# Altium integrated library Atmel AT6000.IntLib: 80 symbols (part 5 of 6)
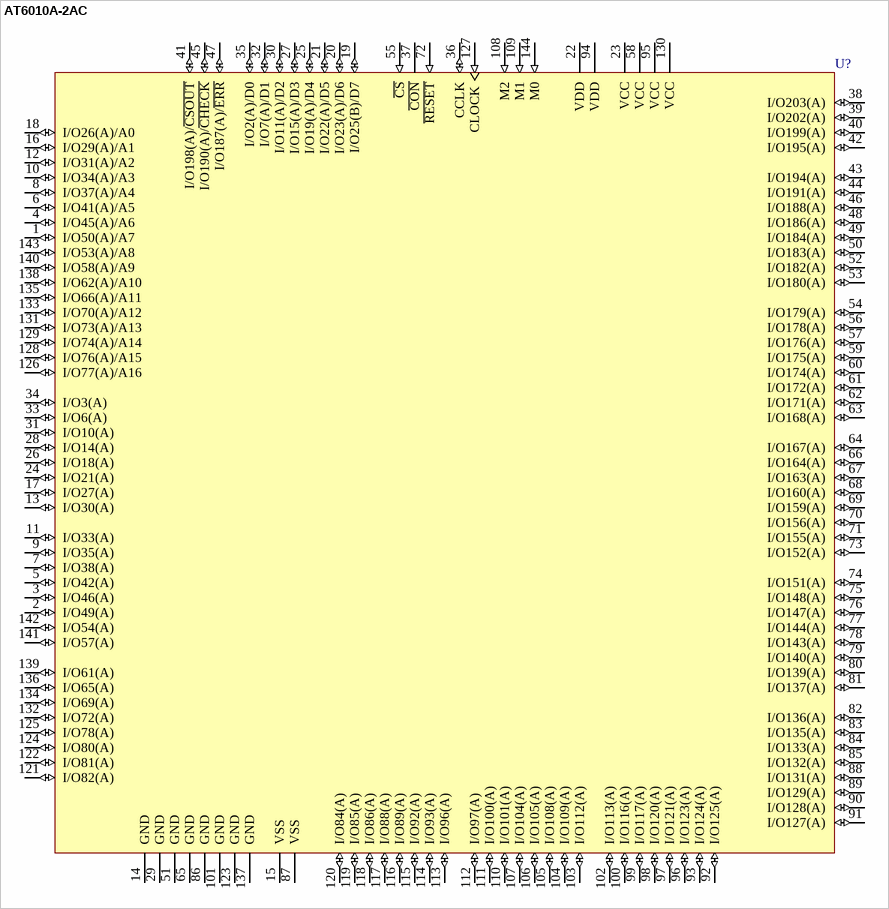
[diagram p54: symbol AT6010A-2AC]

## AT6010A-2AC
designator U?
AT6010 5.0V FPGA, 120 User I/O Pins, 144-Lead TQFP, Speed Grade 2, Commercial Grade; Published: 24-Nov-2000; LatestRevisionDate: 13-Apr-2006; LatestRevisionNote: IPC-7351 Footprint Added.; DatasheetVersion: Rev. 0264F-10/99; PackageVersion: rev.A, Nov-2001; PackageReference: 144L1; Publisher: Altium Limited; PackageDescription: 144-Pin Thin Quad Flat Pack 0.5 mm Pitch; Code_JEDEC: MS-026-BFB; ComponentLink1Description: Manufacturer Link; ComponentLink1URL: http://www.atmel.com/products/FPGA/; ComponentLink2Description: Datasheet; ComponentLink2URL: http://www.atmel.com/dyn/resources/prod_documents/DOC0264.PDF
footprint 144L1_N (Thin QFP, 144-Leads, Body 20x20mm, Pitch 0.5mm, IPC Medium Density)
footprint 144L1_L (Thin QFP, 144-Leads, Body 20x20mm, Pitch 0.5mm, IPC High Density)
footprint 144L1_M (Thin QFP, 144-Leads, Body 20x20mm, Pitch 0.5mm, IPC Low Density)
3D model AT6010A-144L1 (144-Pin Thin Quad Flat Pack 0.5 mm Pitch)
pins: 1 I/O50(A)/A7 (io), 2 I/O49(A) (io), 3 I/O46(A) (io), 4 I/O45(A)/A6 (io), 5 I/O42(A) (io), 6 I/O41(A)/A5 (io), 7 I/O38(A) (io), 8 I/O37(A)/A4 (io), 9 I/O35(A) (io), 10 I/O34(A)/A3 (io), 11 I/O33(A) (io), 12 I/O31(A)/A2 (io), 13 I/O30(A) (io), 14 GND (power), 15 VSS (power) hidden to VSS, 16 I/O29(A)/A1 (io), 17 I/O27(A) (io), 18 I/O26(A)/A0 (io), 19 I/O25(B)/D7 (io), 20 I/O23(A)/D6 (io), 21 I/O22(A)/D5 (io), 22 VDD (power), 23 VCC (power), 24 I/O21(A) (io), 25 I/O19(A)/D4 (io), 26 I/O18(A) (io), 27 I/O15(A)/D3 (io), 28 I/O14(A) (io), 29 GND (power), 30 I/O11(A)/D2 (io), 31 I/O10(A) (io), 32 I/O7(A)/D1 (io), 33 I/O6(A) (io), 34 I/O3(A) (io), 35 I/O2(A)/D0 (io), 36 CCLK (io), 37 ~{CON} (oc), 38 I/O203(A) (io), 39 I/O202(A) (io), 40 I/O199(A) (io), 41 I/O198(A)/~{CSOUT} (io), 42 I/O195(A) (io), 43 I/O194(A) (io), 44 I/O191(A) (io), 45 I/O190(A)/~{CHECK} (io), 46 I/O188(A) (io), 47 I/O187(A)/~{ERR} (io), 48 I/O186(A) (io), 49 I/O184(A) (io), 50 I/O183(A) (io), 51 GND (power), 52 I/O182(A) (io), 53 I/O180(A) (io), 54 I/O179(A) (io), 55 ~{CS} (in), 56 I/O178(A) (io), 57 I/O176(A) (io), 58 VCC (power), 59 I/O175(A) (io), 60 I/O174(A) (io), 61 I/O172(A) (io), 62 I/O171(A) (io), 63 I/O168(A) (io), 64 I/O167(A) (io), 65 GND (power), 66 I/O164(A) (io), 67 I/O163(A) (io), 68 I/O160(A) (io), 69 I/O159(A) (io), 70 I/O156(A) (io), 71 I/O155(A) (io), 72 ~{RESET} (in), 73 I/O152(A) (io), 74 I/O151(A) (io), 75 I/O148(A) (io), 76 I/O147(A) (io), 77 I/O144(A) (io), 78 I/O143(A) (io), 79 I/O140(A) (io), 80 I/O139(A) (io), 81 I/O137(A) (io), 82 I/O136(A) (io), 83 I/O135(A) (io), 84 I/O133(A) (io), 85 I/O132(A) (io), 86 GND (power), 87 VSS (power) hidden to VSS, 88 I/O131(A) (io), 89 I/O129(A) (io), 90 I/O128(A) (io), 91 I/O127(A) (io), 92 I/O125(A) (io), 93 I/O124(A) (io), 94 VDD (power), 95 VCC (power), 96 I/O123(A) (io), 97 I/O121(A) (io), 98 I/O120(A) (io), 99 I/O117(A) (io), 100 I/O116(A) (io), 101 GND (power), 102 I/O113(A) (io), 103 I/O112(A) (io), 104 I/O109(A) (io), 105 I/O108(A) (io), 106 I/O105(A) (io), 107 I/O104(A) (io), 108 M2 (in), 109 M1 (in), 110 I/O101(A) (io), 111 I/O100(A) (io), 112 I/O97(A) (io), 113 I/O96(A) (io), 114 I/O93(A) (io), 115 I/O92(A) (io), 116 I/O89(A) (io), 117 I/O88(A) (io), 118 I/O86(A) (io), 119 I/O85(A) (io), 120 I/O84(A) (io), 121 I/O82(A) (io), 122 I/O81(A) (io), 123 GND (power), 124 I/O80(A) (io), 125 I/O78(A) (io), 126 I/O77(A)/A16 (io), 127 CLOCK (in), 128 I/O76(A)/A15 (io), 129 I/O74(A)/A14 (io), 130 VCC (power), 131 I/O73(A)/A13 (io), 132 I/O72(A) (io), 133 I/O70(A)/A12 (io), 134 I/O69(A) (io), 135 I/O66(A)/A11 (io), 136 I/O65(A) (io), 137 GND (power), 138 I/O62(A)/A10 (io), 139 I/O61(A) (io), 140 I/O58(A)/A9 (io), 141 I/O57(A) (io), 142 I/O54(A) (io), 143 I/O53(A)/A8 (io), 144 M0 (in)

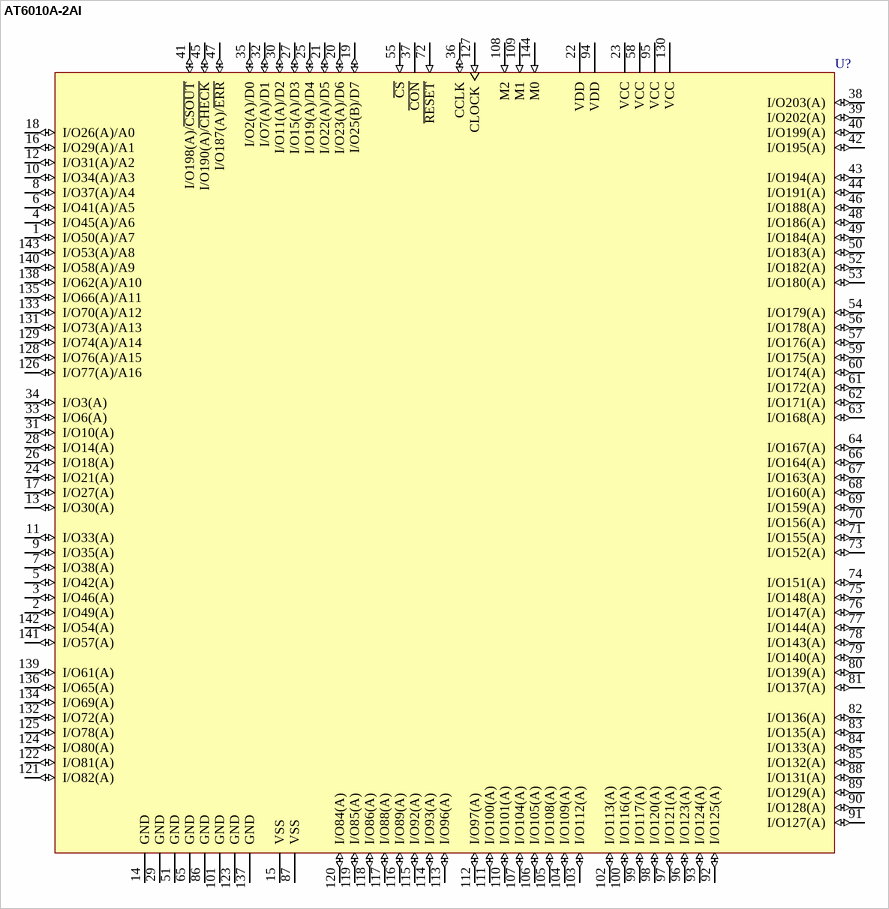
[diagram p36: symbol AT6010A-2AI]

## AT6010A-2AI
designator U?
AT6010 5.0V FPGA, 120 User I/O Pins, 144-Lead TQFP, Speed Grade 2, Industrial Grade; Published: 17-Dec-2003; LatestRevisionDate: 13-Apr-2006; LatestRevisionNote: IPC-7351 Footprint Added.; DatasheetVersion: Rev. 0264F-10/99; PackageVersion: rev.A, Nov-2001; PackageReference: 144L1; Publisher: Altium Limited; PackageDescription: 144-Pin Thin Quad Flat Pack 0.5 mm Pitch; Code_JEDEC: MS-026-BFB; ComponentLink1Description: Manufacturer Link; ComponentLink1URL: http://www.atmel.com/products/FPGA/; ComponentLink2Description: Datasheet; ComponentLink2URL: http://www.atmel.com/dyn/resources/prod_documents/DOC0264.PDF
footprint 144L1_N (Thin QFP, 144-Leads, Body 20x20mm, Pitch 0.5mm, IPC Medium Density)
footprint 144L1_L (Thin QFP, 144-Leads, Body 20x20mm, Pitch 0.5mm, IPC High Density)
footprint 144L1_M (Thin QFP, 144-Leads, Body 20x20mm, Pitch 0.5mm, IPC Low Density)
3D model AT6010A-144L1 (144-Pin Thin Quad Flat Pack 0.5 mm Pitch)
pins: 1 I/O50(A)/A7 (io), 2 I/O49(A) (io), 3 I/O46(A) (io), 4 I/O45(A)/A6 (io), 5 I/O42(A) (io), 6 I/O41(A)/A5 (io), 7 I/O38(A) (io), 8 I/O37(A)/A4 (io), 9 I/O35(A) (io), 10 I/O34(A)/A3 (io), 11 I/O33(A) (io), 12 I/O31(A)/A2 (io), 13 I/O30(A) (io), 14 GND (power), 15 VSS (power) hidden to VSS, 16 I/O29(A)/A1 (io), 17 I/O27(A) (io), 18 I/O26(A)/A0 (io), 19 I/O25(B)/D7 (io), 20 I/O23(A)/D6 (io), 21 I/O22(A)/D5 (io), 22 VDD (power), 23 VCC (power), 24 I/O21(A) (io), 25 I/O19(A)/D4 (io), 26 I/O18(A) (io), 27 I/O15(A)/D3 (io), 28 I/O14(A) (io), 29 GND (power), 30 I/O11(A)/D2 (io), 31 I/O10(A) (io), 32 I/O7(A)/D1 (io), 33 I/O6(A) (io), 34 I/O3(A) (io), 35 I/O2(A)/D0 (io), 36 CCLK (io), 37 ~{CON} (oc), 38 I/O203(A) (io), 39 I/O202(A) (io), 40 I/O199(A) (io), 41 I/O198(A)/~{CSOUT} (io), 42 I/O195(A) (io), 43 I/O194(A) (io), 44 I/O191(A) (io), 45 I/O190(A)/~{CHECK} (io), 46 I/O188(A) (io), 47 I/O187(A)/~{ERR} (io), 48 I/O186(A) (io), 49 I/O184(A) (io), 50 I/O183(A) (io), 51 GND (power), 52 I/O182(A) (io), 53 I/O180(A) (io), 54 I/O179(A) (io), 55 ~{CS} (in), 56 I/O178(A) (io), 57 I/O176(A) (io), 58 VCC (power), 59 I/O175(A) (io), 60 I/O174(A) (io), 61 I/O172(A) (io), 62 I/O171(A) (io), 63 I/O168(A) (io), 64 I/O167(A) (io), 65 GND (power), 66 I/O164(A) (io), 67 I/O163(A) (io), 68 I/O160(A) (io), 69 I/O159(A) (io), 70 I/O156(A) (io), 71 I/O155(A) (io), 72 ~{RESET} (in), 73 I/O152(A) (io), 74 I/O151(A) (io), 75 I/O148(A) (io), 76 I/O147(A) (io), 77 I/O144(A) (io), 78 I/O143(A) (io), 79 I/O140(A) (io), 80 I/O139(A) (io), 81 I/O137(A) (io), 82 I/O136(A) (io), 83 I/O135(A) (io), 84 I/O133(A) (io), 85 I/O132(A) (io), 86 GND (power), 87 VSS (power) hidden to VSS, 88 I/O131(A) (io), 89 I/O129(A) (io), 90 I/O128(A) (io), 91 I/O127(A) (io), 92 I/O125(A) (io), 93 I/O124(A) (io), 94 VDD (power), 95 VCC (power), 96 I/O123(A) (io), 97 I/O121(A) (io), 98 I/O120(A) (io), 99 I/O117(A) (io), 100 I/O116(A) (io), 101 GND (power), 102 I/O113(A) (io), 103 I/O112(A) (io), 104 I/O109(A) (io), 105 I/O108(A) (io), 106 I/O105(A) (io), 107 I/O104(A) (io), 108 M2 (in), 109 M1 (in), 110 I/O101(A) (io), 111 I/O100(A) (io), 112 I/O97(A) (io), 113 I/O96(A) (io), 114 I/O93(A) (io), 115 I/O92(A) (io), 116 I/O89(A) (io), 117 I/O88(A) (io), 118 I/O86(A) (io), 119 I/O85(A) (io), 120 I/O84(A) (io), 121 I/O82(A) (io), 122 I/O81(A) (io), 123 GND (power), 124 I/O80(A) (io), 125 I/O78(A) (io), 126 I/O77(A)/A16 (io), 127 CLOCK (in), 128 I/O76(A)/A15 (io), 129 I/O74(A)/A14 (io), 130 VCC (power), 131 I/O73(A)/A13 (io), 132 I/O72(A) (io), 133 I/O70(A)/A12 (io), 134 I/O69(A) (io), 135 I/O66(A)/A11 (io), 136 I/O65(A) (io), 137 GND (power), 138 I/O62(A)/A10 (io), 139 I/O61(A) (io), 140 I/O58(A)/A9 (io), 141 I/O57(A) (io), 142 I/O54(A) (io), 143 I/O53(A)/A8 (io), 144 M0 (in)

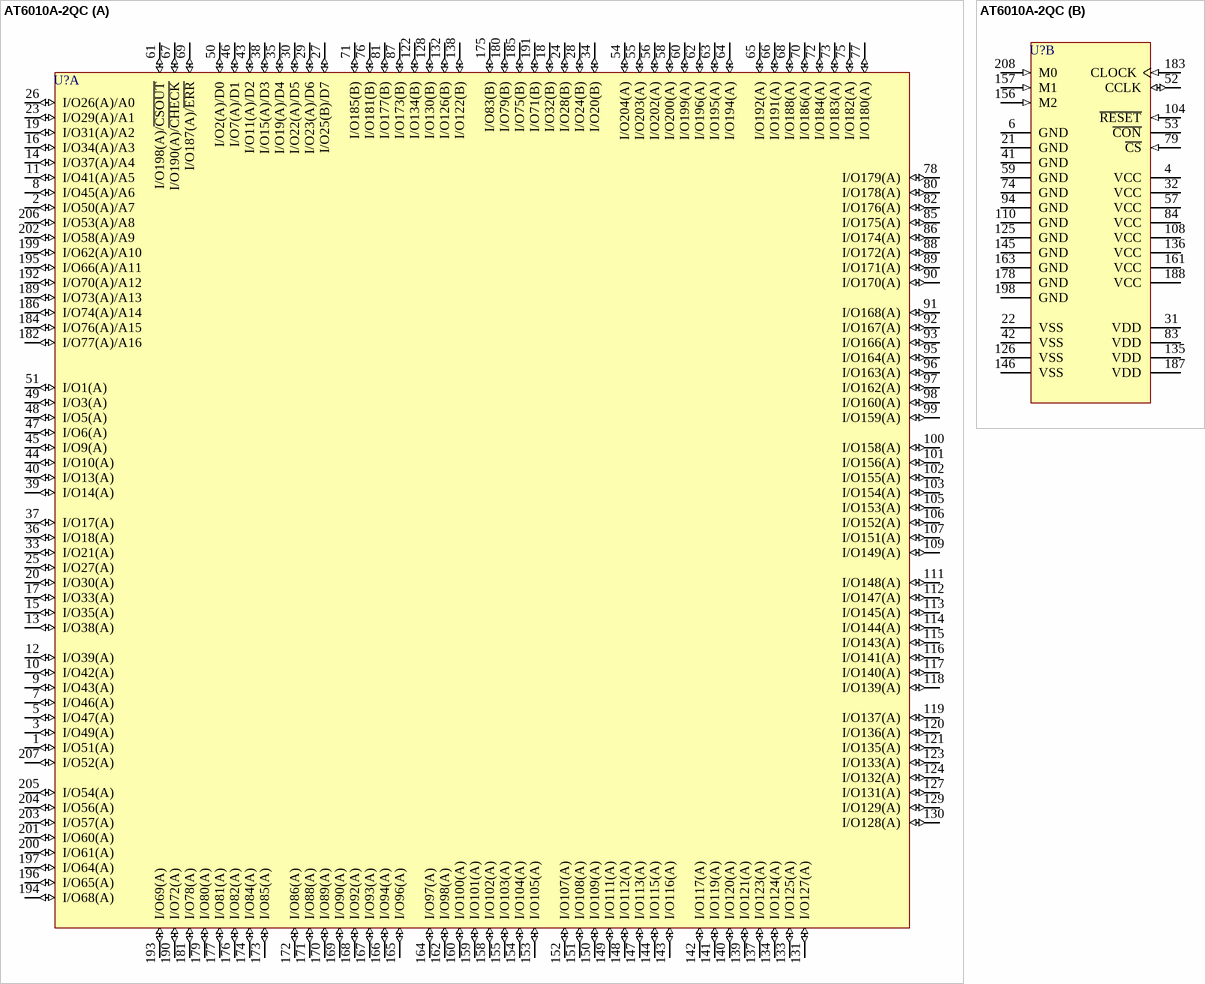
[diagram p37: symbol AT6010A-2QC]

## AT6010A-2QC
designator U?
AT6010 5.0V FPGA, 172 User I/O Pins, 208-Lead PQFP, Speed Grade 2, Commercial Grade; Published: 17-Dec-2003; LatestRevisionDate: 13-Apr-2006; LatestRevisionNote: IPC-7351 Footprint Added.; DatasheetVersion: Rev. 0264F-10/99; PackageVersion: rev.A, Nov-2001; PackageReference: 208Q1; Publisher: Altium Limited; PackageDescription: 208-Pin Shrink Quad Flat Pack 0.5 mm Pitch; ComponentLink1Description: Manufacturer Link; ComponentLink1URL: http://www.atmel.com/products/FPGA/; ComponentLink2Description: Datasheet; ComponentLink2URL: http://www.atmel.com/dyn/resources/prod_documents/DOC0264.PDF
footprint 208Q1_N (Shrink QFP, 208-Leads, Body 28x28mm, Pitch 0.5mm, IPC Medium Density)
footprint 208Q1_L (Shrink QFP, 208-Leads, Body 28x28mm, Pitch 0.5mm, IPC High Density)
footprint 208Q1_M (Shrink QFP, 208-Leads, Body 28x28mm, Pitch 0.5mm, IPC Low Density)
3D model AT6010A-208Q1 (208-Pin Shrink Quad Flat Pack 0.5 mm Pitch)
part A pins: 1 I/O51(A) (io), 2 I/O50(A)/A7 (io), 3 I/O49(A) (io), 5 I/O47(A) (io), 7 I/O46(A) (io), 8 I/O45(A)/A6 (io), 9 I/O43(A) (io), 10 I/O42(A) (io), 11 I/O41(A)/A5 (io), 12 I/O39(A) (io), 13 I/O38(A) (io), 14 I/O37(A)/A4 (io), 15 I/O35(A) (io), 16 I/O34(A)/A3 (io), 17 I/O33(A) (io), 18 I/O32(B) (io), 19 I/O31(A)/A2 (io), 20 I/O30(A) (io), 23 I/O29(A)/A1 (io), 24 I/O28(B) (io), 25 I/O27(A) (io), 26 I/O26(A)/A0 (io), 27 I/O25(B)/D7 (io), 28 I/O24(B) (io), 29 I/O23(A)/D6 (io), 30 I/O22(A)/D5 (io), 33 I/O21(A) (io), 34 I/O20(B) (io), 35 I/O19(A)/D4 (io), 36 I/O18(A) (io), 37 I/O17(A) (io), 38 I/O15(A)/D3 (io), 39 I/O14(A) (io), 40 I/O13(A) (io), 43 I/O11(A)/D2 (io), 44 I/O10(A) (io), 45 I/O9(A) (io), 46 I/O7(A)/D1 (io), 47 I/O6(A) (io), 48 I/O5(A) (io), 49 I/O3(A) (io), 50 I/O2(A)/D0 (io), 51 I/O1(A) (io), 54 I/O204(A) (io), 55 I/O203(A) (io), 56 I/O202(A) (io), 58 I/O200(A) (io), 60 I/O199(A) (io), 61 I/O198(A)/~{CSOUT} (io), 62 I/O196(A) (io), 63 I/O195(A) (io), 64 I/O194(A) (io), 65 I/O192(A) (io), 66 I/O191(A) (io), 67 I/O190(A)/~{CHECK} (io), 68 I/O188(A) (io), 69 I/O187(A)/~{ERR} (io), 70 I/O186(A) (io), 71 I/O185(B) (io), 72 I/O184(A) (io), 73 I/O183(A) (io), 75 I/O182(A) (io), 76 I/O181(B) (io), 77 I/O180(A) (io), 78 I/O179(A) (io), 80 I/O178(A) (io), 81 I/O177(B) (io), 82 I/O176(A) (io), 85 I/O175(A) (io), 86 I/O174(A) (io), 87 I/O173(B) (io), 88 I/O172(A) (io), 89 I/O171(A) (io), 90 I/O170(A) (io), 91 I/O168(A) (io), 92 I/O167(A) (io), 93 I/O166(A) (io), 95 I/O164(A) (io), 96 I/O163(A) (io), 97 I/O162(A) (io), 98 I/O160(A) (io), 99 I/O159(A) (io), 100 I/O158(A) (io), 101 I/O156(A) (io), 102 I/O155(A) (io), 103 I/O154(A) (io), 105 I/O153(A) (io), 106 I/O152(A) (io), 107 I/O151(A) (io), 109 I/O149(A) (io), 111 I/O148(A) (io), 112 I/O147(A) (io), 113 I/O145(A) (io), 114 I/O144(A) (io), 115 I/O143(A) (io), 116 I/O141(A) (io), 117 I/O140(A) (io), 118 I/O139(A) (io), 119 I/O137(A) (io), 120 I/O136(A) (io), 121 I/O135(A) (io), 122 I/O134(B) (io), 123 I/O133(A) (io), 124 I/O132(A) (io), 127 I/O131(A) (io), 128 I/O130(B) (io), 129 I/O129(A) (io), 130 I/O128(A) (io), 131 I/O127(A) (io), 132 I/O126(B) (io), 133 I/O125(A) (io), 134 I/O124(A) (io), 137 I/O123(A) (io), 138 I/O122(B) (io), 139 I/O121(A) (io), 140 I/O120(A) (io), 141 I/O119(A) (io), 142 I/O117(A) (io), 143 I/O116(A) (io), 144 I/O115(A) (io), 147 I/O113(A) (io), 148 I/O112(A) (io), 149 I/O111(A) (io), 150 I/O109(A) (io), 151 I/O108(A) (io), 152 I/O107(A) (io), 153 I/O105(A) (io), 154 I/O104(A) (io), 155 I/O103(A) (io), 158 I/O102(A) (io), 159 I/O101(A) (io), 160 I/O100(A) (io), 162 I/O98(A) (io), 164 I/O97(A) (io), 165 I/O96(A) (io), 166 I/O94(A) (io), 167 I/O93(A) (io), 168 I/O92(A) (io), 169 I/O90(A) (io), 170 I/O89(A) (io), 171 I/O88(A) (io), 172 I/O86(A) (io), 173 I/O85(A) (io), 174 I/O84(A) (io), 175 I/O83(B) (io), 176 I/O82(A) (io), 177 I/O81(A) (io), 179 I/O80(A) (io), 180 I/O79(B) (io), 181 I/O78(A) (io), 182 I/O77(A)/A16 (io), 184 I/O76(A)/A15 (io), 185 I/O75(B) (io), 186 I/O74(A)/A14 (io), 189 I/O73(A)/A13 (io), 190 I/O72(A) (io), 191 I/O71(B) (io), 192 I/O70(A)/A12 (io), 193 I/O69(A) (io), 194 I/O68(A) (io), 195 I/O66(A)/A11 (io), 196 I/O65(A) (io), 197 I/O64(A) (io), 199 I/O62(A)/A10 (io), 200 I/O61(A) (io), 201 I/O60(A) (io), 202 I/O58(A)/A9 (io), 203 I/O57(A) (io), 204 I/O56(A) (io), 205 I/O54(A) (io), 206 I/O53(A)/A8 (io), 207 I/O52(A) (io)
part B pins: 4 VCC (power), 6 GND (power), 21 GND (power), 22 VSS (power), 31 VDD (power), 32 VCC (power), 41 GND (power), 42 VSS (power), 52 CCLK (io), 53 ~{CON} (oc), 57 VCC (power), 59 GND (power), 74 GND (power), 79 ~{CS} (in), 83 VDD (power), 84 VCC (power), 94 GND (power), 104 ~{RESET} (in), 108 VCC (power), 110 GND (power), 125 GND (power), 126 VSS (power), 135 VDD (power), 136 VCC (power), 145 GND (power), 146 VSS (power), 156 M2 (in), 157 M1 (in), 161 VCC (power), 163 GND (power), 178 GND (power), 183 CLOCK (in), 187 VDD (power), 188 VCC (power), 198 GND (power), 208 M0 (in)

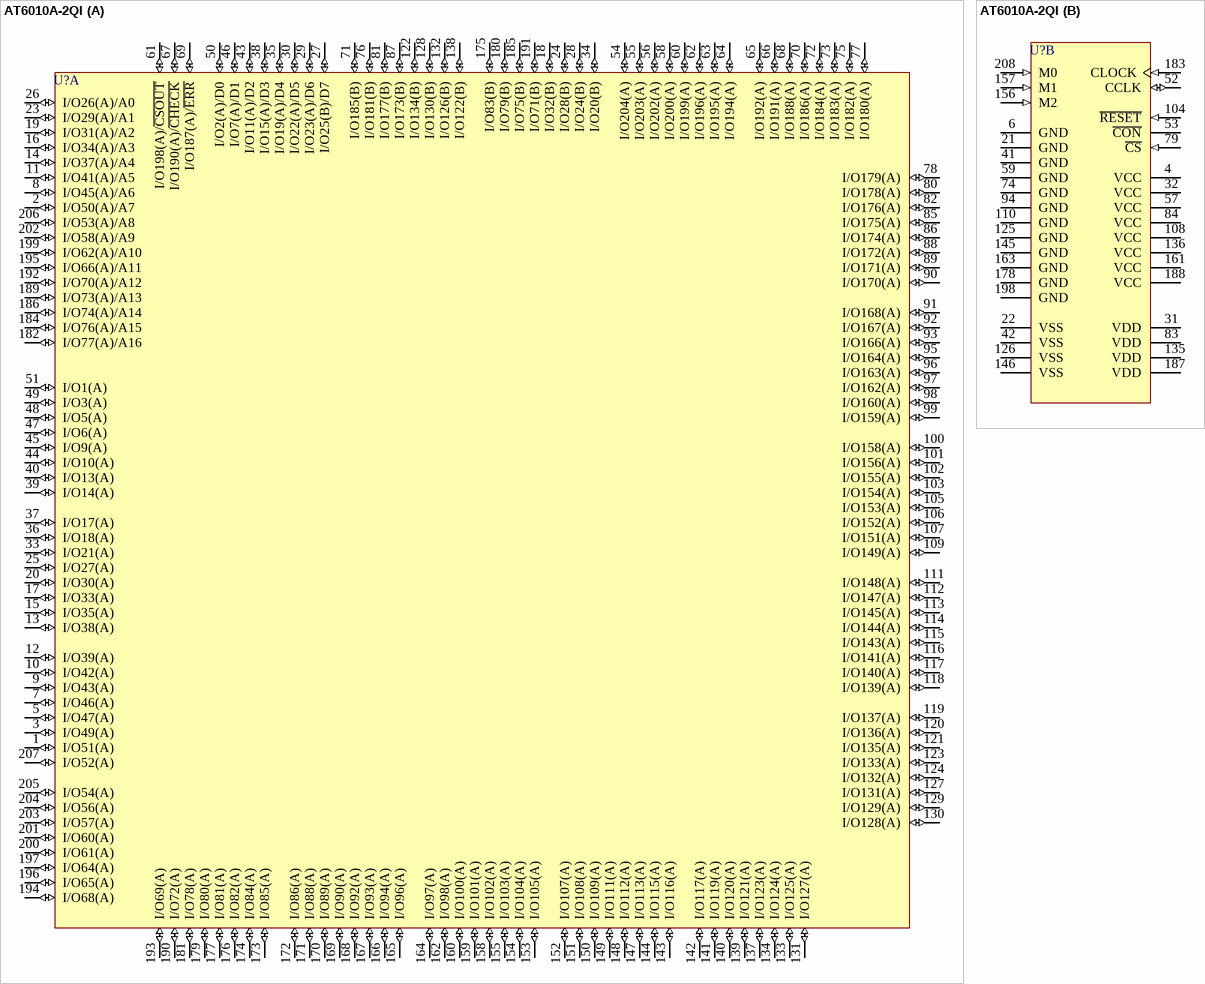
[diagram p38: symbol AT6010A-2QI]

## AT6010A-2QI
designator U?
AT6010 5.0V FPGA, 172 User I/O Pins, 208-Lead PQFP, Speed Grade 2, Industrial Grade; Published: 17-Dec-2003; LatestRevisionDate: 13-Apr-2006; LatestRevisionNote: IPC-7351 Footprint Added.; DatasheetVersion: Rev. 0264F-10/99; PackageVersion: rev.A, Nov-2001; PackageReference: 208Q1; Publisher: Altium Limited; PackageDescription: 208-Pin Shrink Quad Flat Pack 0.5 mm Pitch; ComponentLink1Description: Manufacturer Link; ComponentLink1URL: http://www.atmel.com/products/FPGA/; ComponentLink2Description: Datasheet; ComponentLink2URL: http://www.atmel.com/dyn/resources/prod_documents/DOC0264.PDF
footprint 208Q1_N (Shrink QFP, 208-Leads, Body 28x28mm, Pitch 0.5mm, IPC Medium Density)
footprint 208Q1_L (Shrink QFP, 208-Leads, Body 28x28mm, Pitch 0.5mm, IPC High Density)
footprint 208Q1_M (Shrink QFP, 208-Leads, Body 28x28mm, Pitch 0.5mm, IPC Low Density)
3D model AT6010A-208Q1 (208-Pin Shrink Quad Flat Pack 0.5 mm Pitch)
part A pins: 1 I/O51(A) (io), 2 I/O50(A)/A7 (io), 3 I/O49(A) (io), 5 I/O47(A) (io), 7 I/O46(A) (io), 8 I/O45(A)/A6 (io), 9 I/O43(A) (io), 10 I/O42(A) (io), 11 I/O41(A)/A5 (io), 12 I/O39(A) (io), 13 I/O38(A) (io), 14 I/O37(A)/A4 (io), 15 I/O35(A) (io), 16 I/O34(A)/A3 (io), 17 I/O33(A) (io), 18 I/O32(B) (io), 19 I/O31(A)/A2 (io), 20 I/O30(A) (io), 23 I/O29(A)/A1 (io), 24 I/O28(B) (io), 25 I/O27(A) (io), 26 I/O26(A)/A0 (io), 27 I/O25(B)/D7 (io), 28 I/O24(B) (io), 29 I/O23(A)/D6 (io), 30 I/O22(A)/D5 (io), 33 I/O21(A) (io), 34 I/O20(B) (io), 35 I/O19(A)/D4 (io), 36 I/O18(A) (io), 37 I/O17(A) (io), 38 I/O15(A)/D3 (io), 39 I/O14(A) (io), 40 I/O13(A) (io), 43 I/O11(A)/D2 (io), 44 I/O10(A) (io), 45 I/O9(A) (io), 46 I/O7(A)/D1 (io), 47 I/O6(A) (io), 48 I/O5(A) (io), 49 I/O3(A) (io), 50 I/O2(A)/D0 (io), 51 I/O1(A) (io), 54 I/O204(A) (io), 55 I/O203(A) (io), 56 I/O202(A) (io), 58 I/O200(A) (io), 60 I/O199(A) (io), 61 I/O198(A)/~{CSOUT} (io), 62 I/O196(A) (io), 63 I/O195(A) (io), 64 I/O194(A) (io), 65 I/O192(A) (io), 66 I/O191(A) (io), 67 I/O190(A)/~{CHECK} (io), 68 I/O188(A) (io), 69 I/O187(A)/~{ERR} (io), 70 I/O186(A) (io), 71 I/O185(B) (io), 72 I/O184(A) (io), 73 I/O183(A) (io), 75 I/O182(A) (io), 76 I/O181(B) (io), 77 I/O180(A) (io), 78 I/O179(A) (io), 80 I/O178(A) (io), 81 I/O177(B) (io), 82 I/O176(A) (io), 85 I/O175(A) (io), 86 I/O174(A) (io), 87 I/O173(B) (io), 88 I/O172(A) (io), 89 I/O171(A) (io), 90 I/O170(A) (io), 91 I/O168(A) (io), 92 I/O167(A) (io), 93 I/O166(A) (io), 95 I/O164(A) (io), 96 I/O163(A) (io), 97 I/O162(A) (io), 98 I/O160(A) (io), 99 I/O159(A) (io), 100 I/O158(A) (io), 101 I/O156(A) (io), 102 I/O155(A) (io), 103 I/O154(A) (io), 105 I/O153(A) (io), 106 I/O152(A) (io), 107 I/O151(A) (io), 109 I/O149(A) (io), 111 I/O148(A) (io), 112 I/O147(A) (io), 113 I/O145(A) (io), 114 I/O144(A) (io), 115 I/O143(A) (io), 116 I/O141(A) (io), 117 I/O140(A) (io), 118 I/O139(A) (io), 119 I/O137(A) (io), 120 I/O136(A) (io), 121 I/O135(A) (io), 122 I/O134(B) (io), 123 I/O133(A) (io), 124 I/O132(A) (io), 127 I/O131(A) (io), 128 I/O130(B) (io), 129 I/O129(A) (io), 130 I/O128(A) (io), 131 I/O127(A) (io), 132 I/O126(B) (io), 133 I/O125(A) (io), 134 I/O124(A) (io), 137 I/O123(A) (io), 138 I/O122(B) (io), 139 I/O121(A) (io), 140 I/O120(A) (io), 141 I/O119(A) (io), 142 I/O117(A) (io), 143 I/O116(A) (io), 144 I/O115(A) (io), 147 I/O113(A) (io), 148 I/O112(A) (io), 149 I/O111(A) (io), 150 I/O109(A) (io), 151 I/O108(A) (io), 152 I/O107(A) (io), 153 I/O105(A) (io), 154 I/O104(A) (io), 155 I/O103(A) (io), 158 I/O102(A) (io), 159 I/O101(A) (io), 160 I/O100(A) (io), 162 I/O98(A) (io), 164 I/O97(A) (io), 165 I/O96(A) (io), 166 I/O94(A) (io), 167 I/O93(A) (io), 168 I/O92(A) (io), 169 I/O90(A) (io), 170 I/O89(A) (io), 171 I/O88(A) (io), 172 I/O86(A) (io), 173 I/O85(A) (io), 174 I/O84(A) (io), 175 I/O83(B) (io), 176 I/O82(A) (io), 177 I/O81(A) (io), 179 I/O80(A) (io), 180 I/O79(B) (io), 181 I/O78(A) (io), 182 I/O77(A)/A16 (io), 184 I/O76(A)/A15 (io), 185 I/O75(B) (io), 186 I/O74(A)/A14 (io), 189 I/O73(A)/A13 (io), 190 I/O72(A) (io), 191 I/O71(B) (io), 192 I/O70(A)/A12 (io), 193 I/O69(A) (io), 194 I/O68(A) (io), 195 I/O66(A)/A11 (io), 196 I/O65(A) (io), 197 I/O64(A) (io), 199 I/O62(A)/A10 (io), 200 I/O61(A) (io), 201 I/O60(A) (io), 202 I/O58(A)/A9 (io), 203 I/O57(A) (io), 204 I/O56(A) (io), 205 I/O54(A) (io), 206 I/O53(A)/A8 (io), 207 I/O52(A) (io)
part B pins: 4 VCC (power), 6 GND (power), 21 GND (power), 22 VSS (power), 31 VDD (power), 32 VCC (power), 41 GND (power), 42 VSS (power), 52 CCLK (io), 53 ~{CON} (oc), 57 VCC (power), 59 GND (power), 74 GND (power), 79 ~{CS} (in), 83 VDD (power), 84 VCC (power), 94 GND (power), 104 ~{RESET} (in), 108 VCC (power), 110 GND (power), 125 GND (power), 126 VSS (power), 135 VDD (power), 136 VCC (power), 145 GND (power), 146 VSS (power), 156 M2 (in), 157 M1 (in), 161 VCC (power), 163 GND (power), 178 GND (power), 183 CLOCK (in), 187 VDD (power), 188 VCC (power), 198 GND (power), 208 M0 (in)

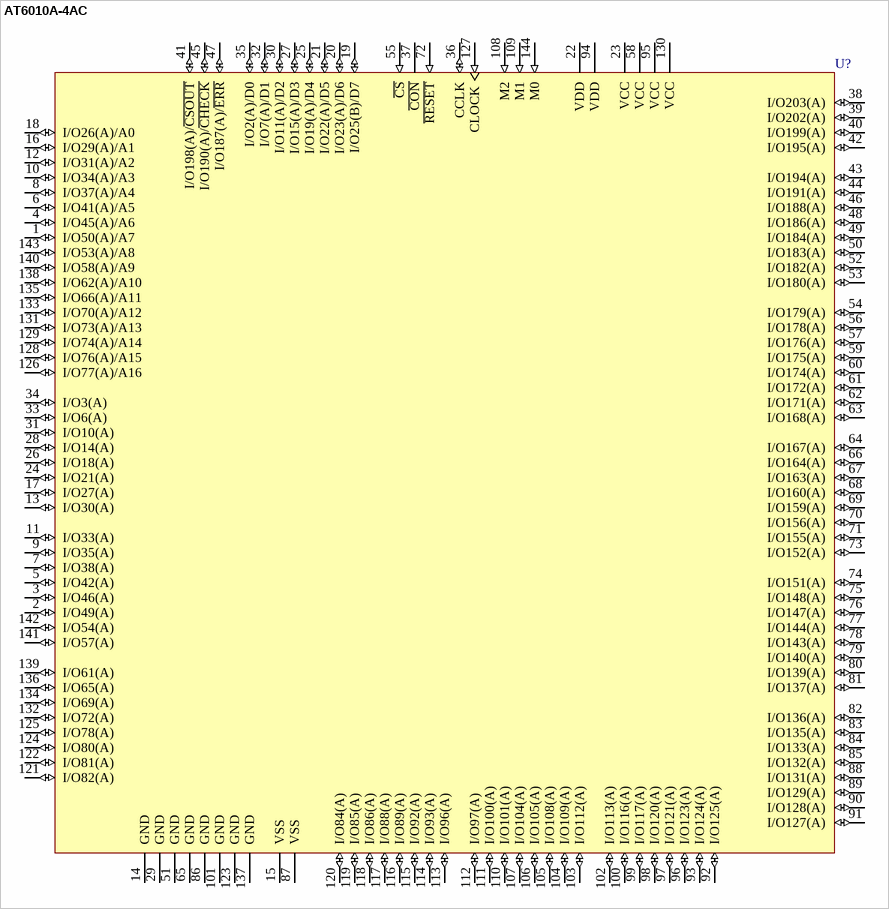
[diagram p39: symbol AT6010A-4AC]

## AT6010A-4AC
designator U?
AT6010 5.0V FPGA, 120 User I/O Pins, 144-Lead TQFP, Speed Grade 4, Commercial Grade; Published: 24-Nov-2000; LatestRevisionDate: 13-Apr-2006; LatestRevisionNote: IPC-7351 Footprint Added.; DatasheetVersion: Rev. 0264F-10/99; PackageVersion: rev.A, Nov-2001; PackageReference: 144L1; Publisher: Altium Limited; PackageDescription: 144-Pin Thin Quad Flat Pack 0.5 mm Pitch; Code_JEDEC: MS-026-BFB; ComponentLink1Description: Manufacturer Link; ComponentLink1URL: http://www.atmel.com/products/FPGA/; ComponentLink2Description: Datasheet; ComponentLink2URL: http://www.atmel.com/dyn/resources/prod_documents/DOC0264.PDF
footprint 144L1_N (Thin QFP, 144-Leads, Body 20x20mm, Pitch 0.5mm, IPC Medium Density)
footprint 144L1_L (Thin QFP, 144-Leads, Body 20x20mm, Pitch 0.5mm, IPC High Density)
footprint 144L1_M (Thin QFP, 144-Leads, Body 20x20mm, Pitch 0.5mm, IPC Low Density)
3D model AT6010A-144L1 (144-Pin Thin Quad Flat Pack 0.5 mm Pitch)
pins: 1 I/O50(A)/A7 (io), 2 I/O49(A) (io), 3 I/O46(A) (io), 4 I/O45(A)/A6 (io), 5 I/O42(A) (io), 6 I/O41(A)/A5 (io), 7 I/O38(A) (io), 8 I/O37(A)/A4 (io), 9 I/O35(A) (io), 10 I/O34(A)/A3 (io), 11 I/O33(A) (io), 12 I/O31(A)/A2 (io), 13 I/O30(A) (io), 14 GND (power), 15 VSS (power) hidden to VSS, 16 I/O29(A)/A1 (io), 17 I/O27(A) (io), 18 I/O26(A)/A0 (io), 19 I/O25(B)/D7 (io), 20 I/O23(A)/D6 (io), 21 I/O22(A)/D5 (io), 22 VDD (power), 23 VCC (power), 24 I/O21(A) (io), 25 I/O19(A)/D4 (io), 26 I/O18(A) (io), 27 I/O15(A)/D3 (io), 28 I/O14(A) (io), 29 GND (power), 30 I/O11(A)/D2 (io), 31 I/O10(A) (io), 32 I/O7(A)/D1 (io), 33 I/O6(A) (io), 34 I/O3(A) (io), 35 I/O2(A)/D0 (io), 36 CCLK (io), 37 ~{CON} (oc), 38 I/O203(A) (io), 39 I/O202(A) (io), 40 I/O199(A) (io), 41 I/O198(A)/~{CSOUT} (io), 42 I/O195(A) (io), 43 I/O194(A) (io), 44 I/O191(A) (io), 45 I/O190(A)/~{CHECK} (io), 46 I/O188(A) (io), 47 I/O187(A)/~{ERR} (io), 48 I/O186(A) (io), 49 I/O184(A) (io), 50 I/O183(A) (io), 51 GND (power), 52 I/O182(A) (io), 53 I/O180(A) (io), 54 I/O179(A) (io), 55 ~{CS} (in), 56 I/O178(A) (io), 57 I/O176(A) (io), 58 VCC (power), 59 I/O175(A) (io), 60 I/O174(A) (io), 61 I/O172(A) (io), 62 I/O171(A) (io), 63 I/O168(A) (io), 64 I/O167(A) (io), 65 GND (power), 66 I/O164(A) (io), 67 I/O163(A) (io), 68 I/O160(A) (io), 69 I/O159(A) (io), 70 I/O156(A) (io), 71 I/O155(A) (io), 72 ~{RESET} (in), 73 I/O152(A) (io), 74 I/O151(A) (io), 75 I/O148(A) (io), 76 I/O147(A) (io), 77 I/O144(A) (io), 78 I/O143(A) (io), 79 I/O140(A) (io), 80 I/O139(A) (io), 81 I/O137(A) (io), 82 I/O136(A) (io), 83 I/O135(A) (io), 84 I/O133(A) (io), 85 I/O132(A) (io), 86 GND (power), 87 VSS (power) hidden to VSS, 88 I/O131(A) (io), 89 I/O129(A) (io), 90 I/O128(A) (io), 91 I/O127(A) (io), 92 I/O125(A) (io), 93 I/O124(A) (io), 94 VDD (power), 95 VCC (power), 96 I/O123(A) (io), 97 I/O121(A) (io), 98 I/O120(A) (io), 99 I/O117(A) (io), 100 I/O116(A) (io), 101 GND (power), 102 I/O113(A) (io), 103 I/O112(A) (io), 104 I/O109(A) (io), 105 I/O108(A) (io), 106 I/O105(A) (io), 107 I/O104(A) (io), 108 M2 (in), 109 M1 (in), 110 I/O101(A) (io), 111 I/O100(A) (io), 112 I/O97(A) (io), 113 I/O96(A) (io), 114 I/O93(A) (io), 115 I/O92(A) (io), 116 I/O89(A) (io), 117 I/O88(A) (io), 118 I/O86(A) (io), 119 I/O85(A) (io), 120 I/O84(A) (io), 121 I/O82(A) (io), 122 I/O81(A) (io), 123 GND (power), 124 I/O80(A) (io), 125 I/O78(A) (io), 126 I/O77(A)/A16 (io), 127 CLOCK (in), 128 I/O76(A)/A15 (io), 129 I/O74(A)/A14 (io), 130 VCC (power), 131 I/O73(A)/A13 (io), 132 I/O72(A) (io), 133 I/O70(A)/A12 (io), 134 I/O69(A) (io), 135 I/O66(A)/A11 (io), 136 I/O65(A) (io), 137 GND (power), 138 I/O62(A)/A10 (io), 139 I/O61(A) (io), 140 I/O58(A)/A9 (io), 141 I/O57(A) (io), 142 I/O54(A) (io), 143 I/O53(A)/A8 (io), 144 M0 (in)

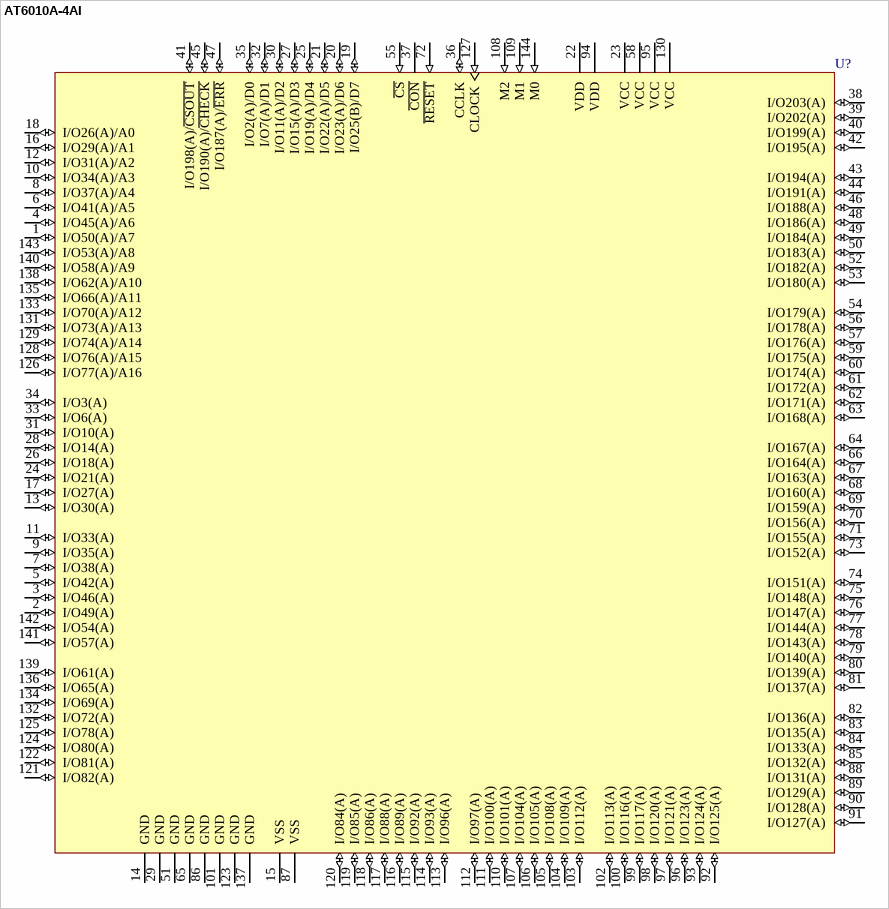
[diagram p40: symbol AT6010A-4AI]

## AT6010A-4AI
designator U?
AT6010 5.0V FPGA, 120 User I/O Pins, 144-Lead TQFP, Speed Grade 4, Industrial Grade; Published: 24-Nov-2000; LatestRevisionDate: 13-Apr-2006; LatestRevisionNote: IPC-7351 Footprint Added.; DatasheetVersion: Rev. 0264F-10/99; PackageVersion: rev.A, Nov-2001; PackageReference: 144L1; Publisher: Altium Limited; PackageDescription: 144-Pin Thin Quad Flat Pack 0.5 mm Pitch; Code_JEDEC: MS-026-BFB; ComponentLink1Description: Manufacturer Link; ComponentLink1URL: http://www.atmel.com/products/FPGA/; ComponentLink2Description: Datasheet; ComponentLink2URL: http://www.atmel.com/dyn/resources/prod_documents/DOC0264.PDF
footprint 144L1_N (Thin QFP, 144-Leads, Body 20x20mm, Pitch 0.5mm, IPC Medium Density)
footprint 144L1_L (Thin QFP, 144-Leads, Body 20x20mm, Pitch 0.5mm, IPC High Density)
footprint 144L1_M (Thin QFP, 144-Leads, Body 20x20mm, Pitch 0.5mm, IPC Low Density)
3D model AT6010A-144L1 (144-Pin Thin Quad Flat Pack 0.5 mm Pitch)
pins: 1 I/O50(A)/A7 (io), 2 I/O49(A) (io), 3 I/O46(A) (io), 4 I/O45(A)/A6 (io), 5 I/O42(A) (io), 6 I/O41(A)/A5 (io), 7 I/O38(A) (io), 8 I/O37(A)/A4 (io), 9 I/O35(A) (io), 10 I/O34(A)/A3 (io), 11 I/O33(A) (io), 12 I/O31(A)/A2 (io), 13 I/O30(A) (io), 14 GND (power), 15 VSS (power) hidden to VSS, 16 I/O29(A)/A1 (io), 17 I/O27(A) (io), 18 I/O26(A)/A0 (io), 19 I/O25(B)/D7 (io), 20 I/O23(A)/D6 (io), 21 I/O22(A)/D5 (io), 22 VDD (power), 23 VCC (power), 24 I/O21(A) (io), 25 I/O19(A)/D4 (io), 26 I/O18(A) (io), 27 I/O15(A)/D3 (io), 28 I/O14(A) (io), 29 GND (power), 30 I/O11(A)/D2 (io), 31 I/O10(A) (io), 32 I/O7(A)/D1 (io), 33 I/O6(A) (io), 34 I/O3(A) (io), 35 I/O2(A)/D0 (io), 36 CCLK (io), 37 ~{CON} (oc), 38 I/O203(A) (io), 39 I/O202(A) (io), 40 I/O199(A) (io), 41 I/O198(A)/~{CSOUT} (io), 42 I/O195(A) (io), 43 I/O194(A) (io), 44 I/O191(A) (io), 45 I/O190(A)/~{CHECK} (io), 46 I/O188(A) (io), 47 I/O187(A)/~{ERR} (io), 48 I/O186(A) (io), 49 I/O184(A) (io), 50 I/O183(A) (io), 51 GND (power), 52 I/O182(A) (io), 53 I/O180(A) (io), 54 I/O179(A) (io), 55 ~{CS} (in), 56 I/O178(A) (io), 57 I/O176(A) (io), 58 VCC (power), 59 I/O175(A) (io), 60 I/O174(A) (io), 61 I/O172(A) (io), 62 I/O171(A) (io), 63 I/O168(A) (io), 64 I/O167(A) (io), 65 GND (power), 66 I/O164(A) (io), 67 I/O163(A) (io), 68 I/O160(A) (io), 69 I/O159(A) (io), 70 I/O156(A) (io), 71 I/O155(A) (io), 72 ~{RESET} (in), 73 I/O152(A) (io), 74 I/O151(A) (io), 75 I/O148(A) (io), 76 I/O147(A) (io), 77 I/O144(A) (io), 78 I/O143(A) (io), 79 I/O140(A) (io), 80 I/O139(A) (io), 81 I/O137(A) (io), 82 I/O136(A) (io), 83 I/O135(A) (io), 84 I/O133(A) (io), 85 I/O132(A) (io), 86 GND (power), 87 VSS (power) hidden to VSS, 88 I/O131(A) (io), 89 I/O129(A) (io), 90 I/O128(A) (io), 91 I/O127(A) (io), 92 I/O125(A) (io), 93 I/O124(A) (io), 94 VDD (power), 95 VCC (power), 96 I/O123(A) (io), 97 I/O121(A) (io), 98 I/O120(A) (io), 99 I/O117(A) (io), 100 I/O116(A) (io), 101 GND (power), 102 I/O113(A) (io), 103 I/O112(A) (io), 104 I/O109(A) (io), 105 I/O108(A) (io), 106 I/O105(A) (io), 107 I/O104(A) (io), 108 M2 (in), 109 M1 (in), 110 I/O101(A) (io), 111 I/O100(A) (io), 112 I/O97(A) (io), 113 I/O96(A) (io), 114 I/O93(A) (io), 115 I/O92(A) (io), 116 I/O89(A) (io), 117 I/O88(A) (io), 118 I/O86(A) (io), 119 I/O85(A) (io), 120 I/O84(A) (io), 121 I/O82(A) (io), 122 I/O81(A) (io), 123 GND (power), 124 I/O80(A) (io), 125 I/O78(A) (io), 126 I/O77(A)/A16 (io), 127 CLOCK (in), 128 I/O76(A)/A15 (io), 129 I/O74(A)/A14 (io), 130 VCC (power), 131 I/O73(A)/A13 (io), 132 I/O72(A) (io), 133 I/O70(A)/A12 (io), 134 I/O69(A) (io), 135 I/O66(A)/A11 (io), 136 I/O65(A) (io), 137 GND (power), 138 I/O62(A)/A10 (io), 139 I/O61(A) (io), 140 I/O58(A)/A9 (io), 141 I/O57(A) (io), 142 I/O54(A) (io), 143 I/O53(A)/A8 (io), 144 M0 (in)

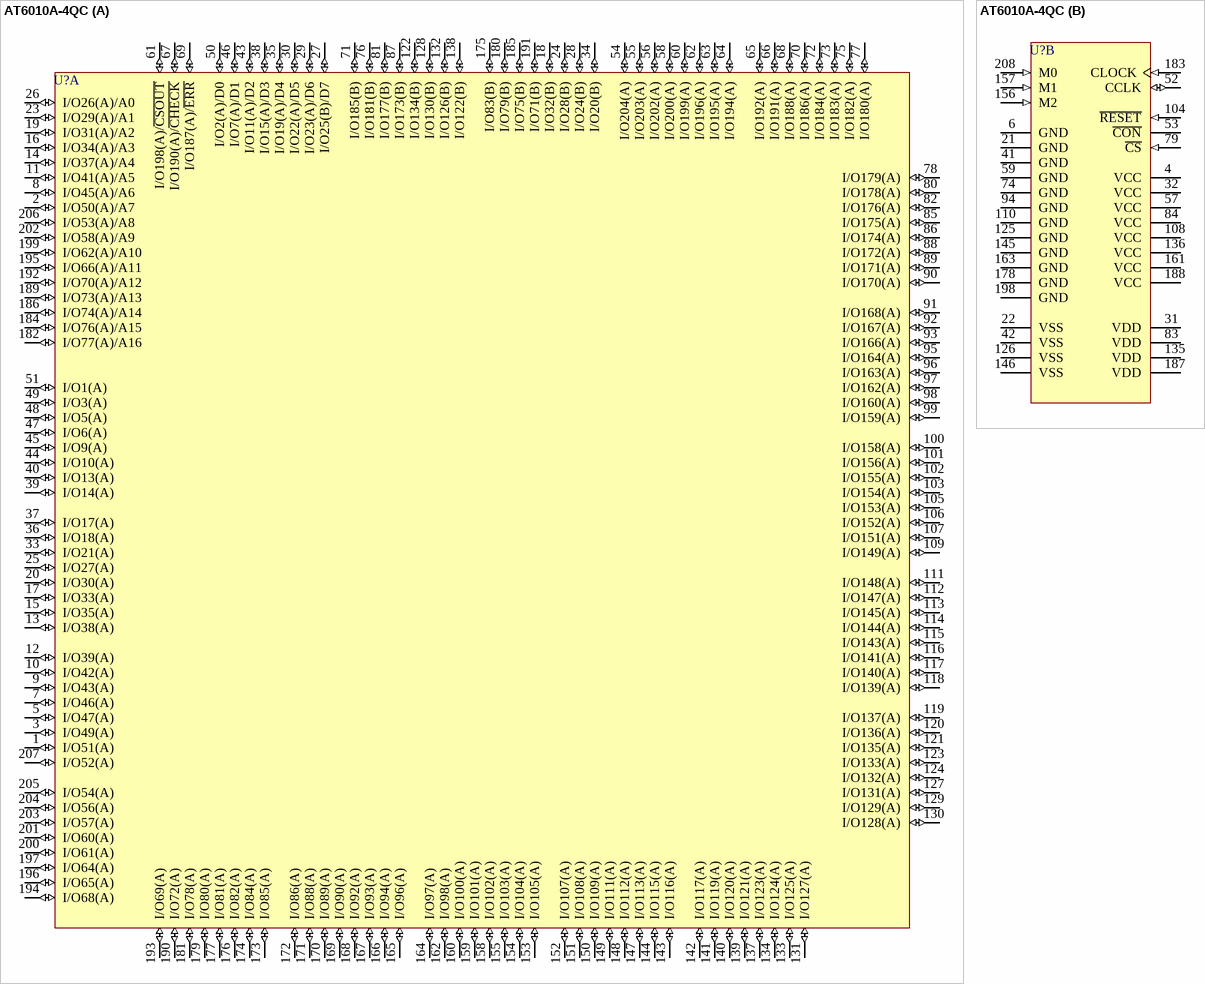
[diagram p41: symbol AT6010A-4QC]

## AT6010A-4QC
designator U?
AT6010 5.0V FPGA, 172 User I/O Pins, 208-Lead PQFP, Speed Grade 4, Commercial Grade; Published: 17-Dec-2003; LatestRevisionDate: 13-Apr-2006; LatestRevisionNote: IPC-7351 Footprint Added.; DatasheetVersion: Rev. 0264F-10/99; PackageVersion: rev.A, Nov-2001; PackageReference: 208Q1; Publisher: Altium Limited; PackageDescription: 208-Pin Shrink Quad Flat Pack 0.5 mm Pitch; ComponentLink1Description: Manufacturer Link; ComponentLink1URL: http://www.atmel.com/products/FPGA/; ComponentLink2Description: Datasheet; ComponentLink2URL: http://www.atmel.com/dyn/resources/prod_documents/DOC0264.PDF
footprint 208Q1_N (Shrink QFP, 208-Leads, Body 28x28mm, Pitch 0.5mm, IPC Medium Density)
footprint 208Q1_L (Shrink QFP, 208-Leads, Body 28x28mm, Pitch 0.5mm, IPC High Density)
footprint 208Q1_M (Shrink QFP, 208-Leads, Body 28x28mm, Pitch 0.5mm, IPC Low Density)
3D model AT6010A-208Q1 (208-Pin Shrink Quad Flat Pack 0.5 mm Pitch)
part A pins: 1 I/O51(A) (io), 2 I/O50(A)/A7 (io), 3 I/O49(A) (io), 5 I/O47(A) (io), 7 I/O46(A) (io), 8 I/O45(A)/A6 (io), 9 I/O43(A) (io), 10 I/O42(A) (io), 11 I/O41(A)/A5 (io), 12 I/O39(A) (io), 13 I/O38(A) (io), 14 I/O37(A)/A4 (io), 15 I/O35(A) (io), 16 I/O34(A)/A3 (io), 17 I/O33(A) (io), 18 I/O32(B) (io), 19 I/O31(A)/A2 (io), 20 I/O30(A) (io), 23 I/O29(A)/A1 (io), 24 I/O28(B) (io), 25 I/O27(A) (io), 26 I/O26(A)/A0 (io), 27 I/O25(B)/D7 (io), 28 I/O24(B) (io), 29 I/O23(A)/D6 (io), 30 I/O22(A)/D5 (io), 33 I/O21(A) (io), 34 I/O20(B) (io), 35 I/O19(A)/D4 (io), 36 I/O18(A) (io), 37 I/O17(A) (io), 38 I/O15(A)/D3 (io), 39 I/O14(A) (io), 40 I/O13(A) (io), 43 I/O11(A)/D2 (io), 44 I/O10(A) (io), 45 I/O9(A) (io), 46 I/O7(A)/D1 (io), 47 I/O6(A) (io), 48 I/O5(A) (io), 49 I/O3(A) (io), 50 I/O2(A)/D0 (io), 51 I/O1(A) (io), 54 I/O204(A) (io), 55 I/O203(A) (io), 56 I/O202(A) (io), 58 I/O200(A) (io), 60 I/O199(A) (io), 61 I/O198(A)/~{CSOUT} (io), 62 I/O196(A) (io), 63 I/O195(A) (io), 64 I/O194(A) (io), 65 I/O192(A) (io), 66 I/O191(A) (io), 67 I/O190(A)/~{CHECK} (io), 68 I/O188(A) (io), 69 I/O187(A)/~{ERR} (io), 70 I/O186(A) (io), 71 I/O185(B) (io), 72 I/O184(A) (io), 73 I/O183(A) (io), 75 I/O182(A) (io), 76 I/O181(B) (io), 77 I/O180(A) (io), 78 I/O179(A) (io), 80 I/O178(A) (io), 81 I/O177(B) (io), 82 I/O176(A) (io), 85 I/O175(A) (io), 86 I/O174(A) (io), 87 I/O173(B) (io), 88 I/O172(A) (io), 89 I/O171(A) (io), 90 I/O170(A) (io), 91 I/O168(A) (io), 92 I/O167(A) (io), 93 I/O166(A) (io), 95 I/O164(A) (io), 96 I/O163(A) (io), 97 I/O162(A) (io), 98 I/O160(A) (io), 99 I/O159(A) (io), 100 I/O158(A) (io), 101 I/O156(A) (io), 102 I/O155(A) (io), 103 I/O154(A) (io), 105 I/O153(A) (io), 106 I/O152(A) (io), 107 I/O151(A) (io), 109 I/O149(A) (io), 111 I/O148(A) (io), 112 I/O147(A) (io), 113 I/O145(A) (io), 114 I/O144(A) (io), 115 I/O143(A) (io), 116 I/O141(A) (io), 117 I/O140(A) (io), 118 I/O139(A) (io), 119 I/O137(A) (io), 120 I/O136(A) (io), 121 I/O135(A) (io), 122 I/O134(B) (io), 123 I/O133(A) (io), 124 I/O132(A) (io), 127 I/O131(A) (io), 128 I/O130(B) (io), 129 I/O129(A) (io), 130 I/O128(A) (io), 131 I/O127(A) (io), 132 I/O126(B) (io), 133 I/O125(A) (io), 134 I/O124(A) (io), 137 I/O123(A) (io), 138 I/O122(B) (io), 139 I/O121(A) (io), 140 I/O120(A) (io), 141 I/O119(A) (io), 142 I/O117(A) (io), 143 I/O116(A) (io), 144 I/O115(A) (io), 147 I/O113(A) (io), 148 I/O112(A) (io), 149 I/O111(A) (io), 150 I/O109(A) (io), 151 I/O108(A) (io), 152 I/O107(A) (io), 153 I/O105(A) (io), 154 I/O104(A) (io), 155 I/O103(A) (io), 158 I/O102(A) (io), 159 I/O101(A) (io), 160 I/O100(A) (io), 162 I/O98(A) (io), 164 I/O97(A) (io), 165 I/O96(A) (io), 166 I/O94(A) (io), 167 I/O93(A) (io), 168 I/O92(A) (io), 169 I/O90(A) (io), 170 I/O89(A) (io), 171 I/O88(A) (io), 172 I/O86(A) (io), 173 I/O85(A) (io), 174 I/O84(A) (io), 175 I/O83(B) (io), 176 I/O82(A) (io), 177 I/O81(A) (io), 179 I/O80(A) (io), 180 I/O79(B) (io), 181 I/O78(A) (io), 182 I/O77(A)/A16 (io), 184 I/O76(A)/A15 (io), 185 I/O75(B) (io), 186 I/O74(A)/A14 (io), 189 I/O73(A)/A13 (io), 190 I/O72(A) (io), 191 I/O71(B) (io), 192 I/O70(A)/A12 (io), 193 I/O69(A) (io), 194 I/O68(A) (io), 195 I/O66(A)/A11 (io), 196 I/O65(A) (io), 197 I/O64(A) (io), 199 I/O62(A)/A10 (io), 200 I/O61(A) (io), 201 I/O60(A) (io), 202 I/O58(A)/A9 (io), 203 I/O57(A) (io), 204 I/O56(A) (io), 205 I/O54(A) (io), 206 I/O53(A)/A8 (io), 207 I/O52(A) (io)
part B pins: 4 VCC (power), 6 GND (power), 21 GND (power), 22 VSS (power), 31 VDD (power), 32 VCC (power), 41 GND (power), 42 VSS (power), 52 CCLK (io), 53 ~{CON} (oc), 57 VCC (power), 59 GND (power), 74 GND (power), 79 ~{CS} (in), 83 VDD (power), 84 VCC (power), 94 GND (power), 104 ~{RESET} (in), 108 VCC (power), 110 GND (power), 125 GND (power), 126 VSS (power), 135 VDD (power), 136 VCC (power), 145 GND (power), 146 VSS (power), 156 M2 (in), 157 M1 (in), 161 VCC (power), 163 GND (power), 178 GND (power), 183 CLOCK (in), 187 VDD (power), 188 VCC (power), 198 GND (power), 208 M0 (in)

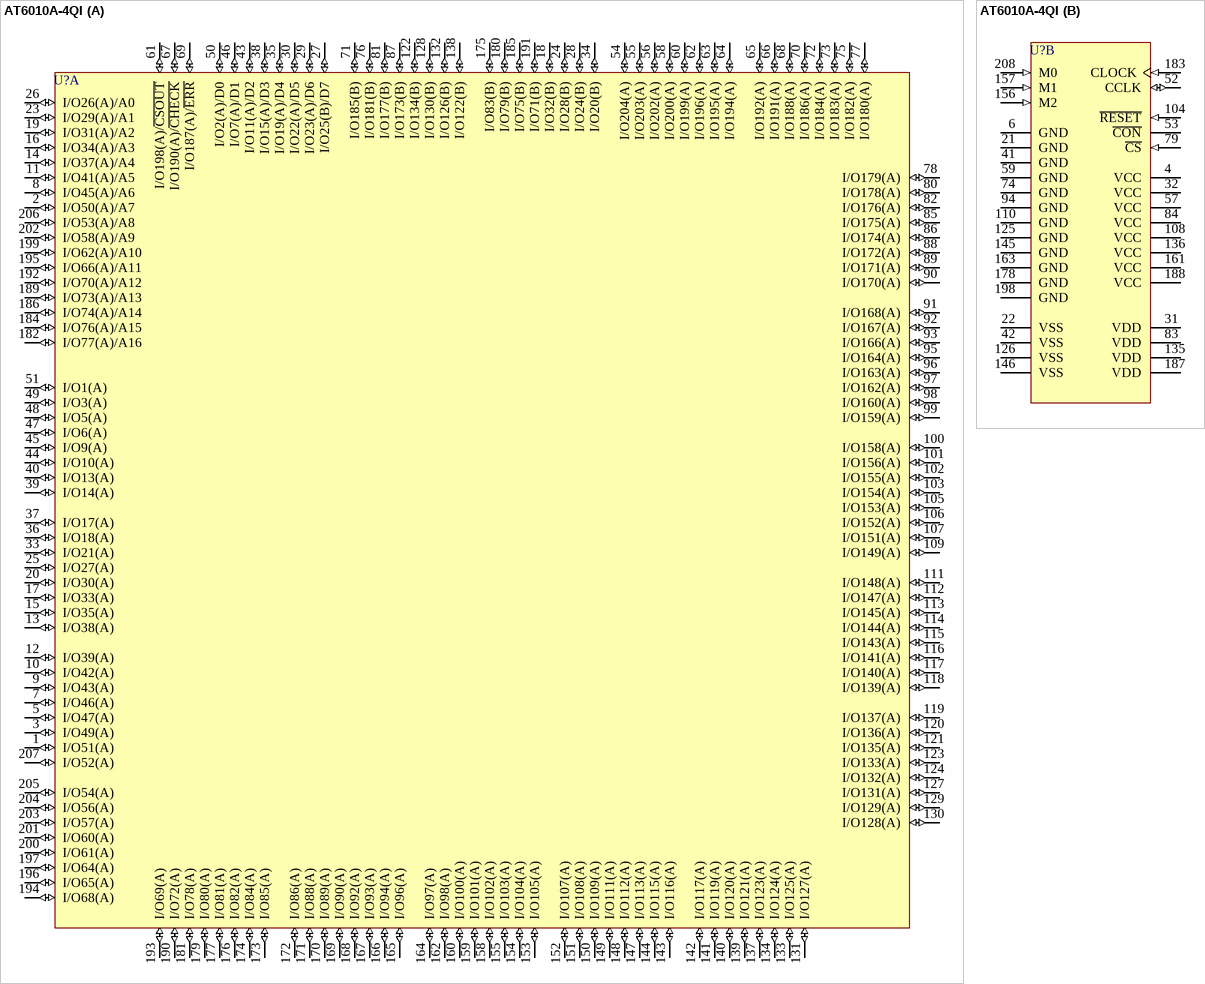
[diagram p42: symbol AT6010A-4QI]

## AT6010A-4QI
designator U?
AT6010 5.0V FPGA, 172 User I/O Pins, 208-Lead PQFP, Speed Grade 4, Industrial Grade; Published: 17-Dec-2003; LatestRevisionDate: 13-Apr-2006; LatestRevisionNote: IPC-7351 Footprint Added.; DatasheetVersion: Rev. 0264F-10/99; PackageVersion: rev.A, Nov-2001; PackageReference: 208Q1; Publisher: Altium Limited; PackageDescription: 208-Pin Shrink Quad Flat Pack 0.5 mm Pitch; ComponentLink1Description: Manufacturer Link; ComponentLink1URL: http://www.atmel.com/products/FPGA/; ComponentLink2Description: Datasheet; ComponentLink2URL: http://www.atmel.com/dyn/resources/prod_documents/DOC0264.PDF
footprint 208Q1_N (Shrink QFP, 208-Leads, Body 28x28mm, Pitch 0.5mm, IPC Medium Density)
footprint 208Q1_L (Shrink QFP, 208-Leads, Body 28x28mm, Pitch 0.5mm, IPC High Density)
footprint 208Q1_M (Shrink QFP, 208-Leads, Body 28x28mm, Pitch 0.5mm, IPC Low Density)
3D model AT6010A-208Q1 (208-Pin Shrink Quad Flat Pack 0.5 mm Pitch)
part A pins: 1 I/O51(A) (io), 2 I/O50(A)/A7 (io), 3 I/O49(A) (io), 5 I/O47(A) (io), 7 I/O46(A) (io), 8 I/O45(A)/A6 (io), 9 I/O43(A) (io), 10 I/O42(A) (io), 11 I/O41(A)/A5 (io), 12 I/O39(A) (io), 13 I/O38(A) (io), 14 I/O37(A)/A4 (io), 15 I/O35(A) (io), 16 I/O34(A)/A3 (io), 17 I/O33(A) (io), 18 I/O32(B) (io), 19 I/O31(A)/A2 (io), 20 I/O30(A) (io), 23 I/O29(A)/A1 (io), 24 I/O28(B) (io), 25 I/O27(A) (io), 26 I/O26(A)/A0 (io), 27 I/O25(B)/D7 (io), 28 I/O24(B) (io), 29 I/O23(A)/D6 (io), 30 I/O22(A)/D5 (io), 33 I/O21(A) (io), 34 I/O20(B) (io), 35 I/O19(A)/D4 (io), 36 I/O18(A) (io), 37 I/O17(A) (io), 38 I/O15(A)/D3 (io), 39 I/O14(A) (io), 40 I/O13(A) (io), 43 I/O11(A)/D2 (io), 44 I/O10(A) (io), 45 I/O9(A) (io), 46 I/O7(A)/D1 (io), 47 I/O6(A) (io), 48 I/O5(A) (io), 49 I/O3(A) (io), 50 I/O2(A)/D0 (io), 51 I/O1(A) (io), 54 I/O204(A) (io), 55 I/O203(A) (io), 56 I/O202(A) (io), 58 I/O200(A) (io), 60 I/O199(A) (io), 61 I/O198(A)/~{CSOUT} (io), 62 I/O196(A) (io), 63 I/O195(A) (io), 64 I/O194(A) (io), 65 I/O192(A) (io), 66 I/O191(A) (io), 67 I/O190(A)/~{CHECK} (io), 68 I/O188(A) (io), 69 I/O187(A)/~{ERR} (io), 70 I/O186(A) (io), 71 I/O185(B) (io), 72 I/O184(A) (io), 73 I/O183(A) (io), 75 I/O182(A) (io), 76 I/O181(B) (io), 77 I/O180(A) (io), 78 I/O179(A) (io), 80 I/O178(A) (io), 81 I/O177(B) (io), 82 I/O176(A) (io), 85 I/O175(A) (io), 86 I/O174(A) (io), 87 I/O173(B) (io), 88 I/O172(A) (io), 89 I/O171(A) (io), 90 I/O170(A) (io), 91 I/O168(A) (io), 92 I/O167(A) (io), 93 I/O166(A) (io), 95 I/O164(A) (io), 96 I/O163(A) (io), 97 I/O162(A) (io), 98 I/O160(A) (io), 99 I/O159(A) (io), 100 I/O158(A) (io), 101 I/O156(A) (io), 102 I/O155(A) (io), 103 I/O154(A) (io), 105 I/O153(A) (io), 106 I/O152(A) (io), 107 I/O151(A) (io), 109 I/O149(A) (io), 111 I/O148(A) (io), 112 I/O147(A) (io), 113 I/O145(A) (io), 114 I/O144(A) (io), 115 I/O143(A) (io), 116 I/O141(A) (io), 117 I/O140(A) (io), 118 I/O139(A) (io), 119 I/O137(A) (io), 120 I/O136(A) (io), 121 I/O135(A) (io), 122 I/O134(B) (io), 123 I/O133(A) (io), 124 I/O132(A) (io), 127 I/O131(A) (io), 128 I/O130(B) (io), 129 I/O129(A) (io), 130 I/O128(A) (io), 131 I/O127(A) (io), 132 I/O126(B) (io), 133 I/O125(A) (io), 134 I/O124(A) (io), 137 I/O123(A) (io), 138 I/O122(B) (io), 139 I/O121(A) (io), 140 I/O120(A) (io), 141 I/O119(A) (io), 142 I/O117(A) (io), 143 I/O116(A) (io), 144 I/O115(A) (io), 147 I/O113(A) (io), 148 I/O112(A) (io), 149 I/O111(A) (io), 150 I/O109(A) (io), 151 I/O108(A) (io), 152 I/O107(A) (io), 153 I/O105(A) (io), 154 I/O104(A) (io), 155 I/O103(A) (io), 158 I/O102(A) (io), 159 I/O101(A) (io), 160 I/O100(A) (io), 162 I/O98(A) (io), 164 I/O97(A) (io), 165 I/O96(A) (io), 166 I/O94(A) (io), 167 I/O93(A) (io), 168 I/O92(A) (io), 169 I/O90(A) (io), 170 I/O89(A) (io), 171 I/O88(A) (io), 172 I/O86(A) (io), 173 I/O85(A) (io), 174 I/O84(A) (io), 175 I/O83(B) (io), 176 I/O82(A) (io), 177 I/O81(A) (io), 179 I/O80(A) (io), 180 I/O79(B) (io), 181 I/O78(A) (io), 182 I/O77(A)/A16 (io), 184 I/O76(A)/A15 (io), 185 I/O75(B) (io), 186 I/O74(A)/A14 (io), 189 I/O73(A)/A13 (io), 190 I/O72(A) (io), 191 I/O71(B) (io), 192 I/O70(A)/A12 (io), 193 I/O69(A) (io), 194 I/O68(A) (io), 195 I/O66(A)/A11 (io), 196 I/O65(A) (io), 197 I/O64(A) (io), 199 I/O62(A)/A10 (io), 200 I/O61(A) (io), 201 I/O60(A) (io), 202 I/O58(A)/A9 (io), 203 I/O57(A) (io), 204 I/O56(A) (io), 205 I/O54(A) (io), 206 I/O53(A)/A8 (io), 207 I/O52(A) (io)
part B pins: 4 VCC (power), 6 GND (power), 21 GND (power), 22 VSS (power), 31 VDD (power), 32 VCC (power), 41 GND (power), 42 VSS (power), 52 CCLK (io), 53 ~{CON} (oc), 57 VCC (power), 59 GND (power), 74 GND (power), 79 ~{CS} (in), 83 VDD (power), 84 VCC (power), 94 GND (power), 104 ~{RESET} (in), 108 VCC (power), 110 GND (power), 125 GND (power), 126 VSS (power), 135 VDD (power), 136 VCC (power), 145 GND (power), 146 VSS (power), 156 M2 (in), 157 M1 (in), 161 VCC (power), 163 GND (power), 178 GND (power), 183 CLOCK (in), 187 VDD (power), 188 VCC (power), 198 GND (power), 208 M0 (in)

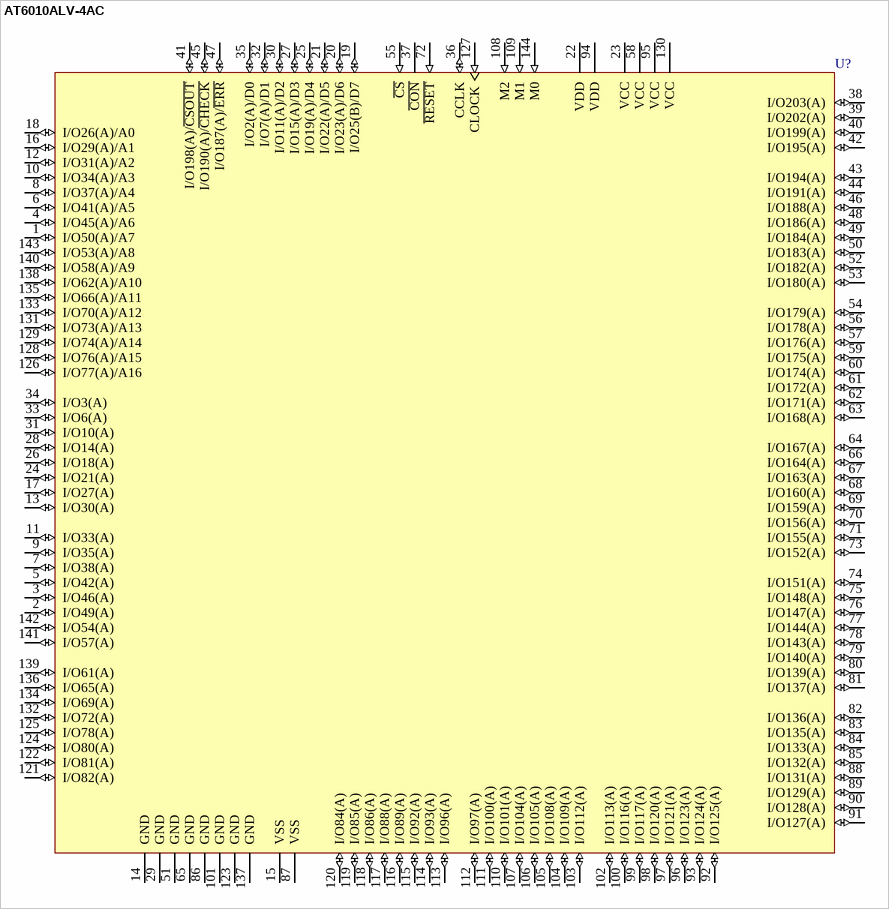
[diagram p43: symbol AT6010ALV-4AC]

## AT6010ALV-4AC
designator U?
AT6010 3.3V FPGA, 120 User I/O Pins, 144-Lead TQFP, Speed Grade 4, Commercial Grade; Published: 17-Dec-2003; LatestRevisionDate: 13-Apr-2006; LatestRevisionNote: IPC-7351 Footprint Added.; DatasheetVersion: Rev. 0264F-10/99; PackageVersion: rev.A, Nov-2001; PackageReference: 144L1; Publisher: Altium Limited; PackageDescription: 144-Pin Thin Quad Flat Pack 0.5 mm Pitch; Code_JEDEC: MS-026-BFB; ComponentLink1Description: Manufacturer Link; ComponentLink1URL: http://www.atmel.com/products/FPGA/; ComponentLink2Description: Datasheet; ComponentLink2URL: http://www.atmel.com/dyn/resources/prod_documents/DOC0264.PDF
footprint 144L1_N (Thin QFP, 144-Leads, Body 20x20mm, Pitch 0.5mm, IPC Medium Density)
footprint 144L1_L (Thin QFP, 144-Leads, Body 20x20mm, Pitch 0.5mm, IPC High Density)
footprint 144L1_M (Thin QFP, 144-Leads, Body 20x20mm, Pitch 0.5mm, IPC Low Density)
3D model AT6010ALV-144L1 (144-Pin Thin Quad Flat Pack 0.5 mm Pitch)
pins: 1 I/O50(A)/A7 (io), 2 I/O49(A) (io), 3 I/O46(A) (io), 4 I/O45(A)/A6 (io), 5 I/O42(A) (io), 6 I/O41(A)/A5 (io), 7 I/O38(A) (io), 8 I/O37(A)/A4 (io), 9 I/O35(A) (io), 10 I/O34(A)/A3 (io), 11 I/O33(A) (io), 12 I/O31(A)/A2 (io), 13 I/O30(A) (io), 14 GND (power), 15 VSS (power) hidden to VSS, 16 I/O29(A)/A1 (io), 17 I/O27(A) (io), 18 I/O26(A)/A0 (io), 19 I/O25(B)/D7 (io), 20 I/O23(A)/D6 (io), 21 I/O22(A)/D5 (io), 22 VDD (power), 23 VCC (power), 24 I/O21(A) (io), 25 I/O19(A)/D4 (io), 26 I/O18(A) (io), 27 I/O15(A)/D3 (io), 28 I/O14(A) (io), 29 GND (power), 30 I/O11(A)/D2 (io), 31 I/O10(A) (io), 32 I/O7(A)/D1 (io), 33 I/O6(A) (io), 34 I/O3(A) (io), 35 I/O2(A)/D0 (io), 36 CCLK (io), 37 ~{CON} (oc), 38 I/O203(A) (io), 39 I/O202(A) (io), 40 I/O199(A) (io), 41 I/O198(A)/~{CSOUT} (io), 42 I/O195(A) (io), 43 I/O194(A) (io), 44 I/O191(A) (io), 45 I/O190(A)/~{CHECK} (io), 46 I/O188(A) (io), 47 I/O187(A)/~{ERR} (io), 48 I/O186(A) (io), 49 I/O184(A) (io), 50 I/O183(A) (io), 51 GND (power), 52 I/O182(A) (io), 53 I/O180(A) (io), 54 I/O179(A) (io), 55 ~{CS} (in), 56 I/O178(A) (io), 57 I/O176(A) (io), 58 VCC (power), 59 I/O175(A) (io), 60 I/O174(A) (io), 61 I/O172(A) (io), 62 I/O171(A) (io), 63 I/O168(A) (io), 64 I/O167(A) (io), 65 GND (power), 66 I/O164(A) (io), 67 I/O163(A) (io), 68 I/O160(A) (io), 69 I/O159(A) (io), 70 I/O156(A) (io), 71 I/O155(A) (io), 72 ~{RESET} (in), 73 I/O152(A) (io), 74 I/O151(A) (io), 75 I/O148(A) (io), 76 I/O147(A) (io), 77 I/O144(A) (io), 78 I/O143(A) (io), 79 I/O140(A) (io), 80 I/O139(A) (io), 81 I/O137(A) (io), 82 I/O136(A) (io), 83 I/O135(A) (io), 84 I/O133(A) (io), 85 I/O132(A) (io), 86 GND (power), 87 VSS (power) hidden to VSS, 88 I/O131(A) (io), 89 I/O129(A) (io), 90 I/O128(A) (io), 91 I/O127(A) (io), 92 I/O125(A) (io), 93 I/O124(A) (io), 94 VDD (power), 95 VCC (power), 96 I/O123(A) (io), 97 I/O121(A) (io), 98 I/O120(A) (io), 99 I/O117(A) (io), 100 I/O116(A) (io), 101 GND (power), 102 I/O113(A) (io), 103 I/O112(A) (io), 104 I/O109(A) (io), 105 I/O108(A) (io), 106 I/O105(A) (io), 107 I/O104(A) (io), 108 M2 (in), 109 M1 (in), 110 I/O101(A) (io), 111 I/O100(A) (io), 112 I/O97(A) (io), 113 I/O96(A) (io), 114 I/O93(A) (io), 115 I/O92(A) (io), 116 I/O89(A) (io), 117 I/O88(A) (io), 118 I/O86(A) (io), 119 I/O85(A) (io), 120 I/O84(A) (io), 121 I/O82(A) (io), 122 I/O81(A) (io), 123 GND (power), 124 I/O80(A) (io), 125 I/O78(A) (io), 126 I/O77(A)/A16 (io), 127 CLOCK (in), 128 I/O76(A)/A15 (io), 129 I/O74(A)/A14 (io), 130 VCC (power), 131 I/O73(A)/A13 (io), 132 I/O72(A) (io), 133 I/O70(A)/A12 (io), 134 I/O69(A) (io), 135 I/O66(A)/A11 (io), 136 I/O65(A) (io), 137 GND (power), 138 I/O62(A)/A10 (io), 139 I/O61(A) (io), 140 I/O58(A)/A9 (io), 141 I/O57(A) (io), 142 I/O54(A) (io), 143 I/O53(A)/A8 (io), 144 M0 (in)

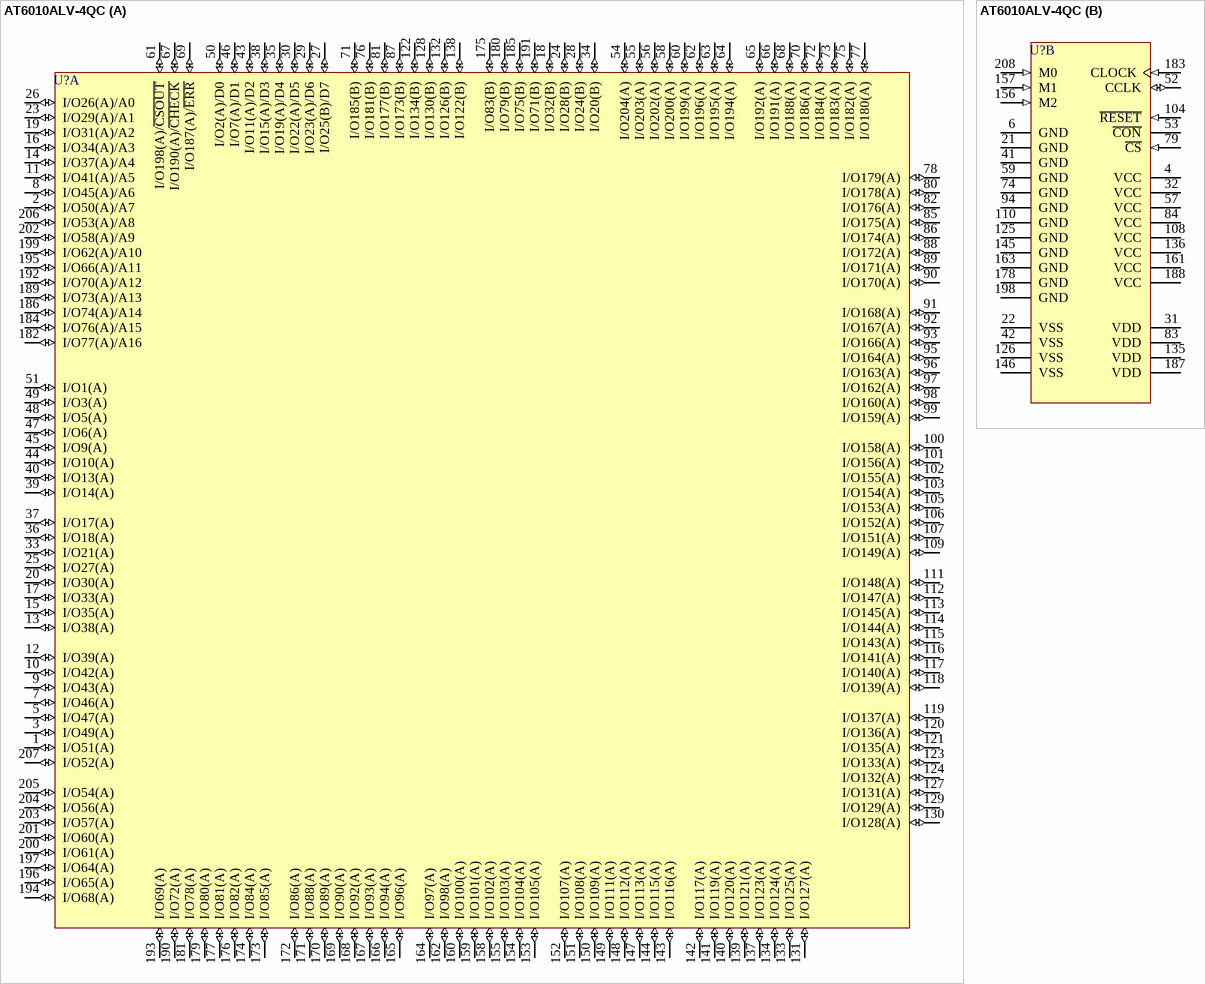
[diagram p44: symbol AT6010ALV-4QC]

## AT6010ALV-4QC
designator U?
AT6010 3.3V FPGA, 172 User I/O Pins, 208-Lead PQFP, Speed Grade 4, Commercial Grade; Published: 17-Dec-2003; LatestRevisionDate: 13-Apr-2006; LatestRevisionNote: IPC-7351 Footprint Added.; DatasheetVersion: Rev. 0264F-10/99; PackageVersion: rev.A, Nov-2001; PackageReference: 208Q1; Publisher: Altium Limited; PackageDescription: 208-Pin Shrink Quad Flat Pack 0.5 mm Pitch; ComponentLink1Description: Manufacturer Link; ComponentLink1URL: http://www.atmel.com/products/FPGA/; ComponentLink2Description: Datasheet; ComponentLink2URL: http://www.atmel.com/dyn/resources/prod_documents/DOC0264.PDF
footprint 208Q1_N (Shrink QFP, 208-Leads, Body 28x28mm, Pitch 0.5mm, IPC Medium Density)
footprint 208Q1_L (Shrink QFP, 208-Leads, Body 28x28mm, Pitch 0.5mm, IPC High Density)
footprint 208Q1_M (Shrink QFP, 208-Leads, Body 28x28mm, Pitch 0.5mm, IPC Low Density)
3D model AT6010ALV-208Q1 (208-Pin Shrink Quad Flat Pack 0.5 mm Pitch)
part A pins: 1 I/O51(A) (io), 2 I/O50(A)/A7 (io), 3 I/O49(A) (io), 5 I/O47(A) (io), 7 I/O46(A) (io), 8 I/O45(A)/A6 (io), 9 I/O43(A) (io), 10 I/O42(A) (io), 11 I/O41(A)/A5 (io), 12 I/O39(A) (io), 13 I/O38(A) (io), 14 I/O37(A)/A4 (io), 15 I/O35(A) (io), 16 I/O34(A)/A3 (io), 17 I/O33(A) (io), 18 I/O32(B) (io), 19 I/O31(A)/A2 (io), 20 I/O30(A) (io), 23 I/O29(A)/A1 (io), 24 I/O28(B) (io), 25 I/O27(A) (io), 26 I/O26(A)/A0 (io), 27 I/O25(B)/D7 (io), 28 I/O24(B) (io), 29 I/O23(A)/D6 (io), 30 I/O22(A)/D5 (io), 33 I/O21(A) (io), 34 I/O20(B) (io), 35 I/O19(A)/D4 (io), 36 I/O18(A) (io), 37 I/O17(A) (io), 38 I/O15(A)/D3 (io), 39 I/O14(A) (io), 40 I/O13(A) (io), 43 I/O11(A)/D2 (io), 44 I/O10(A) (io), 45 I/O9(A) (io), 46 I/O7(A)/D1 (io), 47 I/O6(A) (io), 48 I/O5(A) (io), 49 I/O3(A) (io), 50 I/O2(A)/D0 (io), 51 I/O1(A) (io), 54 I/O204(A) (io), 55 I/O203(A) (io), 56 I/O202(A) (io), 58 I/O200(A) (io), 60 I/O199(A) (io), 61 I/O198(A)/~{CSOUT} (io), 62 I/O196(A) (io), 63 I/O195(A) (io), 64 I/O194(A) (io), 65 I/O192(A) (io), 66 I/O191(A) (io), 67 I/O190(A)/~{CHECK} (io), 68 I/O188(A) (io), 69 I/O187(A)/~{ERR} (io), 70 I/O186(A) (io), 71 I/O185(B) (io), 72 I/O184(A) (io), 73 I/O183(A) (io), 75 I/O182(A) (io), 76 I/O181(B) (io), 77 I/O180(A) (io), 78 I/O179(A) (io), 80 I/O178(A) (io), 81 I/O177(B) (io), 82 I/O176(A) (io), 85 I/O175(A) (io), 86 I/O174(A) (io), 87 I/O173(B) (io), 88 I/O172(A) (io), 89 I/O171(A) (io), 90 I/O170(A) (io), 91 I/O168(A) (io), 92 I/O167(A) (io), 93 I/O166(A) (io), 95 I/O164(A) (io), 96 I/O163(A) (io), 97 I/O162(A) (io), 98 I/O160(A) (io), 99 I/O159(A) (io), 100 I/O158(A) (io), 101 I/O156(A) (io), 102 I/O155(A) (io), 103 I/O154(A) (io), 105 I/O153(A) (io), 106 I/O152(A) (io), 107 I/O151(A) (io), 109 I/O149(A) (io), 111 I/O148(A) (io), 112 I/O147(A) (io), 113 I/O145(A) (io), 114 I/O144(A) (io), 115 I/O143(A) (io), 116 I/O141(A) (io), 117 I/O140(A) (io), 118 I/O139(A) (io), 119 I/O137(A) (io), 120 I/O136(A) (io), 121 I/O135(A) (io), 122 I/O134(B) (io), 123 I/O133(A) (io), 124 I/O132(A) (io), 127 I/O131(A) (io), 128 I/O130(B) (io), 129 I/O129(A) (io), 130 I/O128(A) (io), 131 I/O127(A) (io), 132 I/O126(B) (io), 133 I/O125(A) (io), 134 I/O124(A) (io), 137 I/O123(A) (io), 138 I/O122(B) (io), 139 I/O121(A) (io), 140 I/O120(A) (io), 141 I/O119(A) (io), 142 I/O117(A) (io), 143 I/O116(A) (io), 144 I/O115(A) (io), 147 I/O113(A) (io), 148 I/O112(A) (io), 149 I/O111(A) (io), 150 I/O109(A) (io), 151 I/O108(A) (io), 152 I/O107(A) (io), 153 I/O105(A) (io), 154 I/O104(A) (io), 155 I/O103(A) (io), 158 I/O102(A) (io), 159 I/O101(A) (io), 160 I/O100(A) (io), 162 I/O98(A) (io), 164 I/O97(A) (io), 165 I/O96(A) (io), 166 I/O94(A) (io), 167 I/O93(A) (io), 168 I/O92(A) (io), 169 I/O90(A) (io), 170 I/O89(A) (io), 171 I/O88(A) (io), 172 I/O86(A) (io), 173 I/O85(A) (io), 174 I/O84(A) (io), 175 I/O83(B) (io), 176 I/O82(A) (io), 177 I/O81(A) (io), 179 I/O80(A) (io), 180 I/O79(B) (io), 181 I/O78(A) (io), 182 I/O77(A)/A16 (io), 184 I/O76(A)/A15 (io), 185 I/O75(B) (io), 186 I/O74(A)/A14 (io), 189 I/O73(A)/A13 (io), 190 I/O72(A) (io), 191 I/O71(B) (io), 192 I/O70(A)/A12 (io), 193 I/O69(A) (io), 194 I/O68(A) (io), 195 I/O66(A)/A11 (io), 196 I/O65(A) (io), 197 I/O64(A) (io), 199 I/O62(A)/A10 (io), 200 I/O61(A) (io), 201 I/O60(A) (io), 202 I/O58(A)/A9 (io), 203 I/O57(A) (io), 204 I/O56(A) (io), 205 I/O54(A) (io), 206 I/O53(A)/A8 (io), 207 I/O52(A) (io)
part B pins: 4 VCC (power), 6 GND (power), 21 GND (power), 22 VSS (power), 31 VDD (power), 32 VCC (power), 41 GND (power), 42 VSS (power), 52 CCLK (io), 53 ~{CON} (oc), 57 VCC (power), 59 GND (power), 74 GND (power), 79 ~{CS} (in), 83 VDD (power), 84 VCC (power), 94 GND (power), 104 ~{RESET} (in), 108 VCC (power), 110 GND (power), 125 GND (power), 126 VSS (power), 135 VDD (power), 136 VCC (power), 145 GND (power), 146 VSS (power), 156 M2 (in), 157 M1 (in), 161 VCC (power), 163 GND (power), 178 GND (power), 183 CLOCK (in), 187 VDD (power), 188 VCC (power), 198 GND (power), 208 M0 (in)

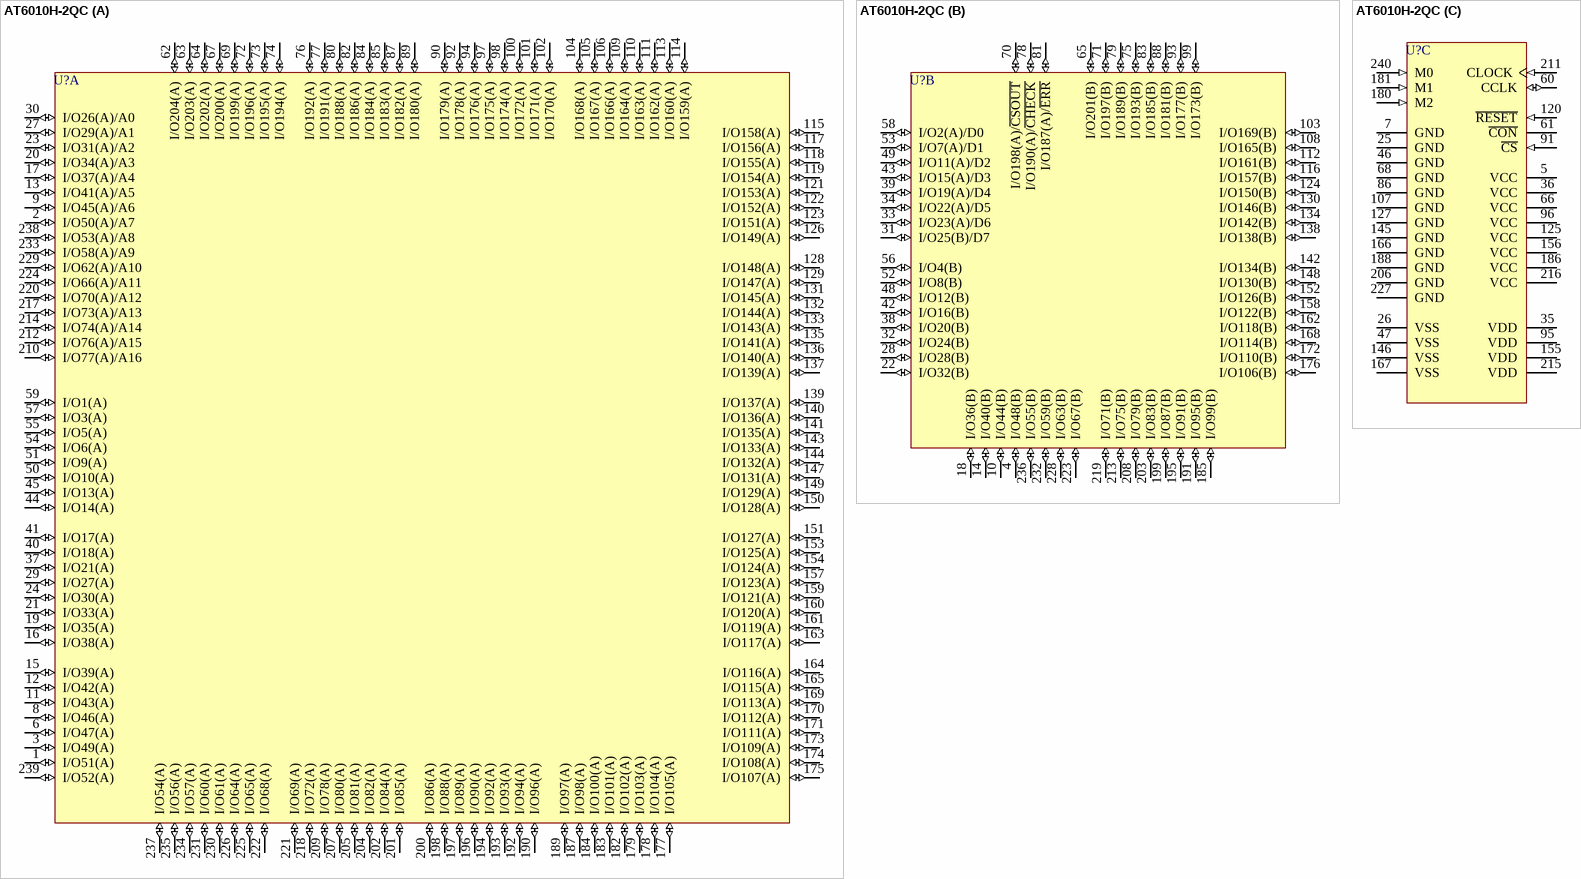
[diagram p45: symbol AT6010H-2QC]

## AT6010H-2QC
designator U?
AT6010 5.0V FPGA, 204 User I/O Pins, 240-Lead PQFP, Speed Grade 2, Commercial Grade; Published: 17-Dec-2003; LatestRevisionDate: 13-Apr-2006; LatestRevisionNote: IPC-7351 Footprint Added.; DatasheetVersion: Rev. 0264F-10/99; PackageVersion: rev.A, Mar-2002; PackageReference: 240Q1; Publisher: Altium Limited; PackageDescription: 240-Pin Shrink Quad Flat Pack 0.5 mm Pitch; Code_JEDEC: MS-029-GA; ComponentLink1Description: Manufacturer Link; ComponentLink1URL: http://www.atmel.com/products/FPGA/; ComponentLink2Description: Datasheet; ComponentLink2URL: http://www.atmel.com/dyn/resources/prod_documents/DOC0264.PDF
footprint 240Q1_N (Shrink QFP, 240-Leads, Body 32x32mm, Pitch 0.5mm, IPC Medium Density)
footprint 240Q1_L (Shrink QFP, 240-Leads, Body 32x32mm, Pitch 0.5mm, IPC High Density)
footprint 240Q1_M (Shrink QFP, 240-Leads, Body 32x32mm, Pitch 0.5mm, IPC Low Density)
3D model AT6010H-240Q1 (240-Pin Shrink Quad Flat Pack 0.5 mm Pitch)
part A pins: 1 I/O51(A) (io), 2 I/O50(A)/A7 (io), 3 I/O49(A) (io), 6 I/O47(A) (io), 8 I/O46(A) (io), 9 I/O45(A)/A6 (io), 11 I/O43(A) (io), 12 I/O42(A) (io), 13 I/O41(A)/A5 (io), 15 I/O39(A) (io), 16 I/O38(A) (io), 17 I/O37(A)/A4 (io), 19 I/O35(A) (io), 20 I/O34(A)/A3 (io), 21 I/O33(A) (io), 23 I/O31(A)/A2 (io), 24 I/O30(A) (io), 27 I/O29(A)/A1 (io), 29 I/O27(A) (io), 30 I/O26(A)/A0 (io), 37 I/O21(A) (io), 40 I/O18(A) (io), 41 I/O17(A) (io), 44 I/O14(A) (io), 45 I/O13(A) (io), 50 I/O10(A) (io), 51 I/O9(A) (io), 54 I/O6(A) (io), 55 I/O5(A) (io), 57 I/O3(A) (io), 59 I/O1(A) (io), 62 I/O204(A) (io), 63 I/O203(A) (io), 64 I/O202(A) (io), 67 I/O200(A) (io), 69 I/O199(A) (io), 72 I/O196(A) (io), 73 I/O195(A) (io), 74 I/O194(A) (io), 76 I/O192(A) (io), 77 I/O191(A) (io), 80 I/O188(A) (io), 82 I/O186(A) (io), 84 I/O184(A) (io), 85 I/O183(A) (io), 87 I/O182(A) (io), 89 I/O180(A) (io), 90 I/O179(A) (io), 92 I/O178(A) (io), 94 I/O176(A) (io), 97 I/O175(A) (io), 98 I/O174(A) (io), 100 I/O172(A) (io), 101 I/O171(A) (io), 102 I/O170(A) (io), 104 I/O168(A) (io), 105 I/O167(A) (io), 106 I/O166(A) (io), 109 I/O164(A) (io), 110 I/O163(A) (io), 111 I/O162(A) (io), 113 I/O160(A) (io), 114 I/O159(A) (io), 115 I/O158(A) (io), 117 I/O156(A) (io), 118 I/O155(A) (io), 119 I/O154(A) (io), 121 I/O153(A) (io), 122 I/O152(A) (io), 123 I/O151(A) (io), 126 I/O149(A) (io), 128 I/O148(A) (io), 129 I/O147(A) (io), 131 I/O145(A) (io), 132 I/O144(A) (io), 133 I/O143(A) (io), 135 I/O141(A) (io), 136 I/O140(A) (io), 137 I/O139(A) (io), 139 I/O137(A) (io), 140 I/O136(A) (io), 141 I/O135(A) (io), 143 I/O133(A) (io), 144 I/O132(A) (io), 147 I/O131(A) (io), 149 I/O129(A) (io), 150 I/O128(A) (io), 151 I/O127(A) (io), 153 I/O125(A) (io), 154 I/O124(A) (io), 157 I/O123(A) (io), 159 I/O121(A) (io), 160 I/O120(A) (io), 161 I/O119(A) (io), 163 I/O117(A) (io), 164 I/O116(A) (io), 165 I/O115(A) (io), 169 I/O113(A) (io), 170 I/O112(A) (io), 171 I/O111(A) (io), 173 I/O109(A) (io), 174 I/O108(A) (io), 175 I/O107(A) (io), 177 I/O105(A) (io), 178 I/O104(A) (io), 179 I/O103(A) (io), 182 I/O102(A) (io), 183 I/O101(A) (io), 184 I/O100(A) (io), 187 I/O98(A) (io), 189 I/O97(A) (io), 190 I/O96(A) (io), 192 I/O94(A) (io), 193 I/O93(A) (io), 194 I/O92(A) (io), 196 I/O90(A) (io), 197 I/O89(A) (io), 198 I/O88(A) (io), 200 I/O86(A) (io), 201 I/O85(A) (io), 202 I/O84(A) (io), 204 I/O82(A) (io), 205 I/O81(A) (io), 207 I/O80(A) (io), 209 I/O78(A) (io), 210 I/O77(A)/A16 (io), 212 I/O76(A)/A15 (io), 214 I/O74(A)/A14 (io), 217 I/O73(A)/A13 (io), 218 I/O72(A) (io), 220 I/O70(A)/A12 (io), 221 I/O69(A) (io), 222 I/O68(A) (io), 224 I/O66(A)/A11 (io), 225 I/O65(A) (io), 226 I/O64(A) (io), 229 I/O62(A)/A10 (io), 230 I/O61(A) (io), 231 I/O60(A) (io), 233 I/O58(A)/A9 (io), 234 I/O57(A) (io), 235 I/O56(A) (io), 237 I/O54(A) (io), 238 I/O53(A)/A8 (io), 239 I/O52(A) (io)
part B pins: 4 I/O48(B) (io), 10 I/O44(B) (io), 14 I/O40(B) (io), 18 I/O36(B) (io), 22 I/O32(B) (io), 28 I/O28(B) (io), 31 I/O25(B)/D7 (io), 32 I/O24(B) (io), 33 I/O23(A)/D6 (io), 34 I/O22(A)/D5 (io), 38 I/O20(B) (io), 39 I/O19(A)/D4 (io), 42 I/O16(B) (io), 43 I/O15(A)/D3 (io), 48 I/O12(B) (io), 49 I/O11(A)/D2 (io), 52 I/O8(B) (io), 53 I/O7(A)/D1 (io), 56 I/O4(B) (io), 58 I/O2(A)/D0 (io), 65 I/O201(B) (io), 70 I/O198(A)/~{CSOUT} (io), 71 I/O197(B) (io), 75 I/O193(B) (io), 78 I/O190(A)/~{CHECK} (io), 79 I/O189(B) (io), 81 I/O187(A)/~{ERR} (io), 83 I/O185(B) (io), 88 I/O181(B) (io), 93 I/O177(B) (io), 99 I/O173(B) (io), 103 I/O169(B) (io), 108 I/O165(B) (io), 112 I/O161(B) (io), 116 I/O157(B) (io), 124 I/O150(B) (io), 130 I/O146(B) (io), 134 I/O142(B) (io), 138 I/O138(B) (io), 142 I/O134(B) (io), 148 I/O130(B) (io), 152 I/O126(B) (io), 158 I/O122(B) (io), 162 I/O118(B) (io), 168 I/O114(B) (io), 172 I/O110(B) (io), 176 I/O106(B) (io), 185 I/O99(B) (io), 191 I/O95(B) (io), 195 I/O91(B) (io), 199 I/O87(B) (io), 203 I/O83(B) (io), 208 I/O79(B) (io), 213 I/O75(B) (io), 219 I/O71(B) (io), 223 I/O67(B) (io), 228 I/O63(B) (io), 232 I/O59(B) (io), 236 I/O55(B) (io)
part C pins: 5 VCC (power), 7 GND (power), 25 GND (power), 26 VSS (power), 35 VDD (power), 36 VCC (power), 46 GND (power), 47 VSS (power), 60 CCLK (io), 61 ~{CON} (oc), 66 VCC (power), 68 GND (power), 86 GND (power), 91 ~{CS} (in), 95 VDD (power), 96 VCC (power), 107 GND (power), 120 ~{RESET} (in), 125 VCC (power), 127 GND (power), 145 GND (power), 146 VSS (power), 155 VDD (power), 156 VCC (power), 166 GND (power), 167 VSS (power), 180 M2 (in), 181 M1 (in), 186 VCC (power), 188 GND (power), 206 GND (power), 211 CLOCK (in), 215 VDD (power), 216 VCC (power), 227 GND (power), 240 M0 (in)

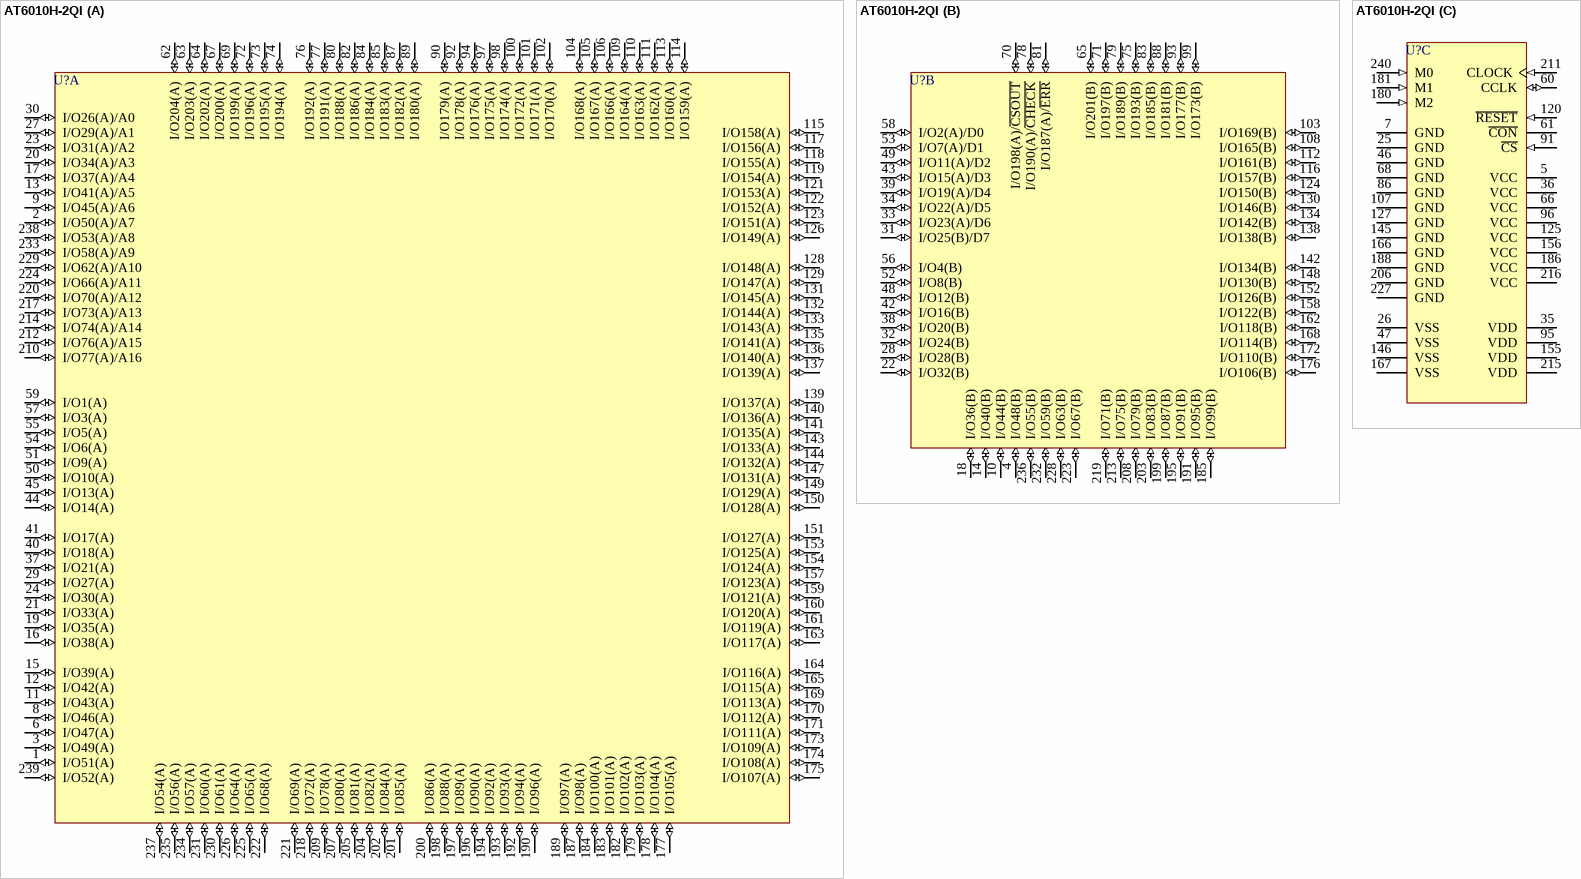
[diagram p46: symbol AT6010H-2QI]